# Altium integrated library Freescale DSP 24-Bit.IntLib: 35 symbols (part 1 of 3)
Pins are listed as number, name and electrical type; pins without a type are passive.

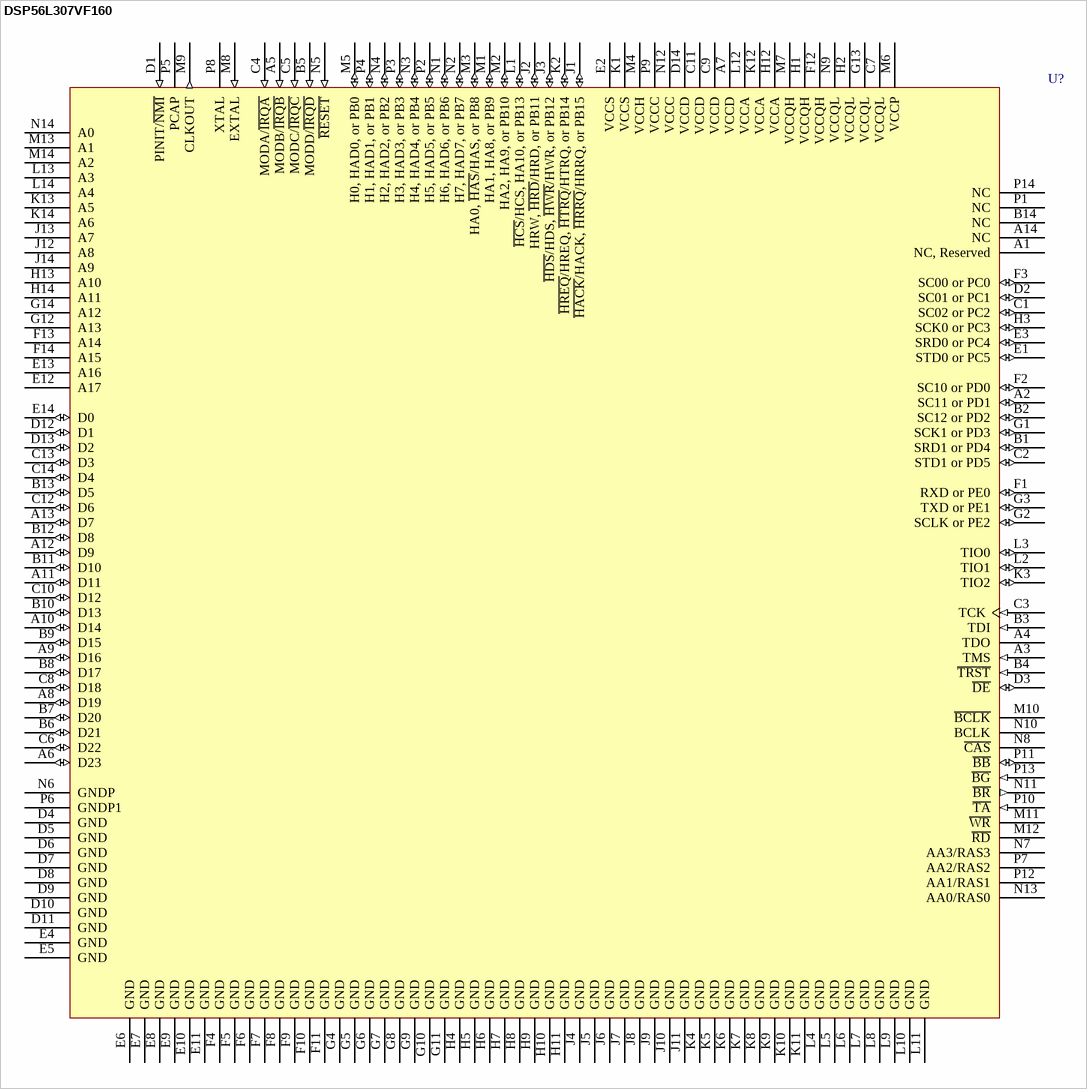
[diagram p0: symbol DSP56L307VF160]

## DSP56L307VF160
designator U?
DSP56300 Family High Performance 24-Bit Fixed Point DSP; Published: 21-Mar-2003; LatestRevisionDate: 13-Apr-2006; LatestRevisionNote: IPC-7351 Footprint Added.; DatasheetVersion: Rev. 2.0, Jul-2002; PackageVersion: rev7, Jan-2002; PackageReference: 1128C-01; Publisher: Altium Limited; PackageDescription: 196-Ball MAP-Ball Grid Array 1 mm Pitch; ComponentLink1Description: Manufacturer Link; ComponentLink1URL: http://www.freescale.com/; ComponentLink2Description: Datasheet; ComponentLink2URL: http://www.freescale.com/files/dsp/doc/data_sheet/DSP56L307.pdf
footprint 1128C-01 (BGA, 196-Leads, Body 15x15mm, Pitch 1mm)
3D model DSP56L307-1128C-01 (196-Ball MAP-Ball Grid Array 1 mm Pitch)
pins: A1 NC, Reserved, A2 SC11 or PD1 (io), A3 TMS (in), A4 TDO (hiz), A5 MODB/~{IRQB} (in), A6 D23 (io), A7 VCCD (power), A8 D19 (io), A9 D16 (io), A10 D14 (io), A11 D11 (io), A12 D9 (io), A13 D7 (io), A14 NC, B1 SRD1 or PD4 (io), B2 SC12 or PD2 (io), B3 TDI (in), B4 ~{TRST} (in), B5 MODD/~{IRQD} (in), B6 D21 (io), B7 D20 (io), B8 D17 (io), B9 D15 (io), B10 D13 (io), B11 D10 (io), B12 D8 (io), B13 D5 (io), B14 NC, C1 SC02 or PC2 (io), C2 STD1 or PD5 (io), C3 TCK (in), C4 MODA/~{IRQA} (in), C5 MODC/~{IRQC} (in), C6 D22 (io), C7 VCCQL (power), C8 D18 (io), C9 VCCD (power), C10 D12 (io), C11 VCCD (power), C12 D6 (io), C13 D3 (io), C14 D4 (io), D1 PINIT/~{NMI} (in), D2 SC01 or PC1 (io), D3 ~{DE} (io), D4 GND (power), D5 GND (power), D6 GND (power), D7 GND (power), D8 GND (power), D9 GND (power), D10 GND (power), D11 GND (power), D12 D1 (io), D13 D2 (io), D14 VCCD (power), E1 STD0 or PC5 (io), E2 VCCS (power), E3 SRD0 or PC4 (io), E4 GND (power), E5 GND (power), E6 GND (power), E7 GND (power), E8 GND (power), E9 GND (power), E10 GND (power), E11 GND (power), E12 A17 (hiz), E13 A16 (hiz), E14 D0 (io), F1 RXD or PE0 (io), F2 SC10 or PD0 (io), F3 SC00 or PC0 (io), F4 GND (power), F5 GND (power), F6 GND (power), F7 GND (power), F8 GND (power), F9 GND (power), F10 GND (power), F11 GND (power), F12 VCCQH (power), F13 A14 (hiz), F14 A15 (hiz), G1 SCK1 or PD3 (io), G2 SCLK or PE2 (io), G3 TXD or PE1 (io), G4 GND (power), G5 GND (power), G6 GND (power), G7 GND (power), G8 GND (power), G9 GND (power), G10 GND (power), G11 GND (power), G12 A13 (hiz), G13 VCCQL (power), G14 A12 (hiz), H1 VCCQH (power), H2 VCCQL (power), H3 SCK0 or PC3 (io), H4 GND (power), H5 GND (power), H6 GND (power), H7 GND (power), H8 GND (power), H9 GND (power), H10 GND (power), H11 GND (power), H12 VCCA (power), H13 A10 (hiz), H14 A11 (hiz), J1 ~{HACK}/HACK, ~{HRRQ}/HRRQ, or PB15 (io), J2 HRW, ~{HRD}/HRD, or PB11 (io), J3 ~{HDS}/HDS, ~{HWR}/HWR, or PB12 (io), J4 GND (power), J5 GND (power), J6 GND (power), J7 GND (power), J8 GND (power), J9 GND (power), J10 GND (power), J11 GND (power), J12 A8 (hiz), J13 A7 (hiz), J14 A9 (hiz), K1 VCCS (power), K2 ~{HREQ}/HREQ, ~{HTRQ}/HTRQ, or PB14 (io), K3 TIO2 (io), K4 GND (power), K5 GND (power), K6 GND (power), K7 GND (power), K8 GND (power), K9 GND (power), K10 GND (power), K11 GND (power), K12 VCCA (power), K13 A5 (hiz), K14 A6 (hiz), L1 ~{HCS}/HCS, HA10, or PB13 (io), L2 TIO1 (io), L3 TIO0 (io), L4 GND (power), L5 GND (power), L6 GND (power), L7 GND (power), L8 GND (power), L9 GND (power), L10 GND (power), L11 GND (power), L12 VCCA (power), L13 A3 (hiz), L14 A4 (hiz), M1 HA1, HA8, or PB9 (io), M2 HA2, HA9, or PB10 (io), M3 HA0, ~{HAS}/HAS, or PB8 (io), M4 VCCH (power), M5 H0, HAD0, or PB0 (io), M6 VCCP (power), M7 VCCQH (power), M8 EXTAL (in), M9 CLKOUT (out), M10 ~{BCLK} (hiz), M11 ~{WR} (hiz), M12 ~{RD} (hiz), M13 A1 (hiz), M14 A2 (hiz), N1 H6, HAD6, or PB6 (io), N2 H7, HAD7, or PB7 (io), N3 H4, HAD4, or PB4 (io), N4 H2, HAD2, or PB2 (io), N5 ~{RESET} (in), N6 GNDP (power), N7 AA3/RAS3 (hiz), N8 ~{CAS} (hiz), N9 VCCQL (power), N10 BCLK (hiz), N11 ~{BR} (out), N12 VCCC (power), N13 AA0/RAS0 (hiz), N14 A0 (hiz), P1 NC, P2 H5, HAD5, or PB5 (io), P3 H3, HAD3, or PB3 (io), P4 H1, HAD1, or PB1 (io), P5 PCAP, P6 GNDP1 (power), P7 AA2/RAS2 (hiz), P8 XTAL, P9 VCCC (power), P10 ~{TA} (in), P11 ~{BB} (io), P12 AA1/RAS1 (hiz), P13 ~{BG} (in), P14 NC

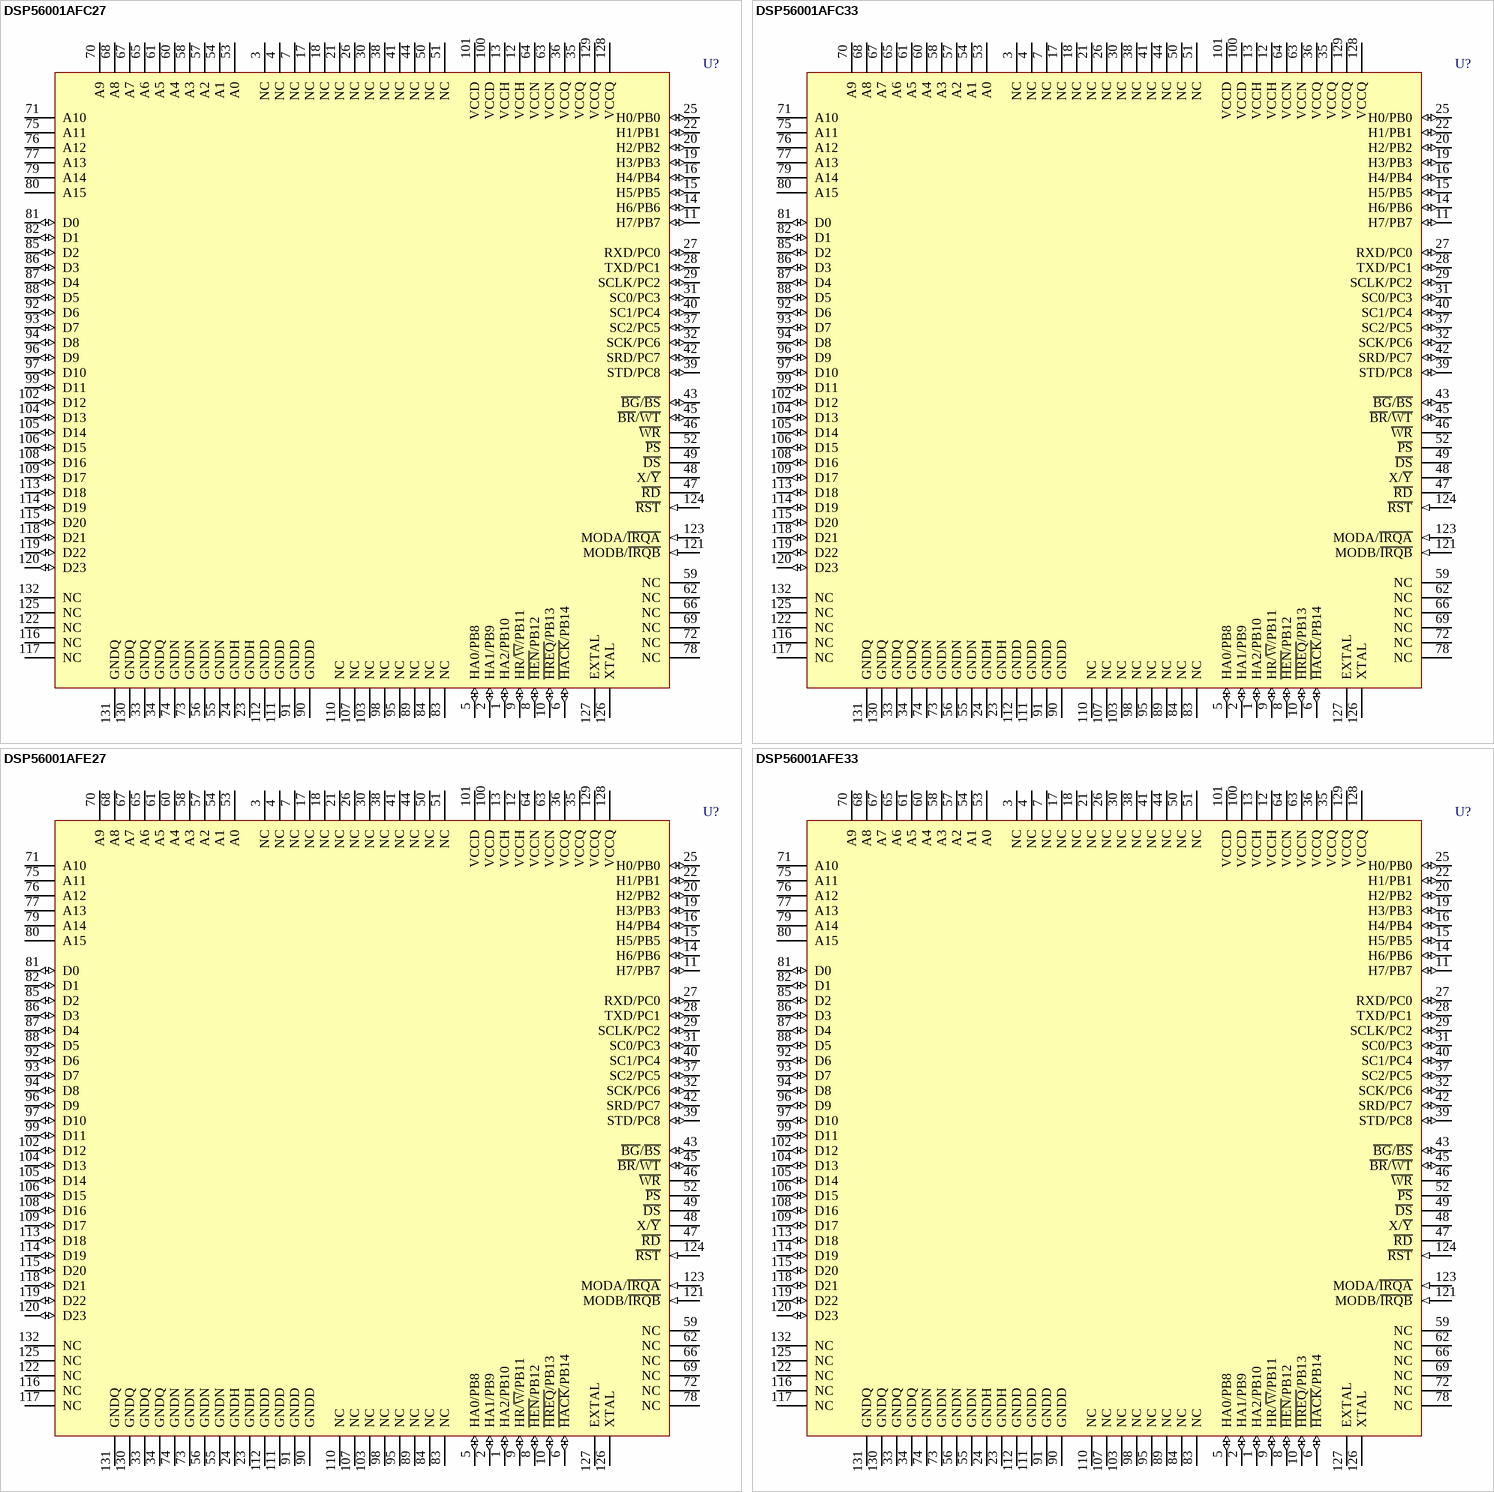
[diagram p1: symbols DSP56001AFC27 to DSP56001AFE33]

## DSP56001AFC27
designator U?
24-Bit General-Purpose Digital Signal Processor; Note: Do not connect to 'No Connect' Pins.; Published: 21-Mar-2003; LatestRevisionDate: 13-Apr-2006; LatestRevisionNote: IPC-7351 Footprint Added.; DatasheetVersion: Rev. 1, 1997; PackageReference: 831-01; Publisher: Altium Limited; PackageDescription: 132-Pin Ceramic Quad Flat Pack 0.635 mm Pitch; ComponentLink1Description: Manufacturer Link; ComponentLink1URL: http://www.freescale.com/
footprint 831-01_N (CQFP, 132-Leads, Body 22.4x22.4mm; Pitch 0.635mm, Gullwing Leadform, IPC Medium Density)
footprint 831-01_L (CQFP, 132-Leads, Body 22.4x22.4mm; Pitch 0.635mm, Gullwing Leadform, IPC High Density)
footprint 831-01_M (CQFP, 132-Leads, Body 22.4x22.4mm; Pitch 0.635mm, Gullwing Leadform, IPC Low Density)
3D model DSP56001A-831-01 (132-Pin Ceramic Quad Flat Pack 0.635 mm Pitch)
pins: 1 HA2/PB10 (io), 2 HA1/PB9 (io), 3 NC, 4 NC, 5 HA0/PB8 (io), 6 ~{HACK}/PB14 (io), 7 NC, 8 ~{HEN}/PB12 (io), 9 HR/~{W}/PB11 (io), 10 ~{HREQ}/PB13 (io), 11 H7/PB7 (io), 12 VCCH (power), 13 VCCH (power), 14 H6/PB6 (io), 15 H5/PB5 (io), 16 H4/PB4 (io), 17 NC, 18 NC, 19 H3/PB3 (io), 20 H2/PB2 (io), 21 NC, 22 H1/PB1 (io), 23 GNDH (power), 24 GNDH (power), 25 H0/PB0 (io), 26 NC, 27 RXD/PC0 (io), 28 TXD/PC1 (io), 29 SCLK/PC2 (io), 30 NC, 31 SC0/PC3 (io), 32 SCK/PC6 (io), 33 GNDQ (power), 34 GNDQ (power), 35 VCCQ (power), 36 VCCQ (power), 37 SC2/PC5 (io), 38 NC, 39 STD/PC8 (io), 40 SC1/PC4 (io), 41 NC, 42 SRD/PC7 (io), 43 ~{BG}/~{BS} (io), 44 NC, 45 ~{BR}/~{WT} (io), 46 ~{WR} (hiz), 47 ~{RD} (hiz), 48 X/~{Y} (hiz), 49 ~{DS} (hiz), 50 NC, 51 NC, 52 ~{PS} (hiz), 53 A0 (hiz), 54 A1 (hiz), 55 GNDN (power), 56 GNDN (power), 57 A2 (hiz), 58 A3 (hiz), 59 NC, 60 A4 (hiz), 61 A5 (hiz), 62 NC, 63 VCCN (power), 64 VCCN (power), 65 A6 (hiz), 66 NC, 67 A7 (hiz), 68 A8 (hiz), 69 NC, 70 A9 (hiz), 71 A10 (hiz), 72 NC, 73 GNDN (power), 74 GNDN (power), 75 A11 (hiz), 76 A12 (hiz), 77 A13 (hiz), 78 NC, 79 A14 (hiz), 80 A15 (hiz), 81 D0 (io), 82 D1 (io), 83 NC, 84 NC, 85 D2 (io), 86 D3 (io), 87 D4 (io), 88 D5 (io), 89 NC, 90 GNDD (power), 91 GNDD (power), 92 D6 (io), 93 D7 (io), 94 D8 (io), 95 NC, 96 D9 (io), 97 D10 (io), 98 NC, 99 D11 (io), 100 VCCD (power), 101 VCCD (power), 102 D12 (io), 103 NC, 104 D13 (io), 105 D14 (io), 106 D15 (io), 107 NC, 108 D16 (io), 109 D17 (io), 110 NC, 111 GNDD (power), 112 GNDD (power), 113 D18 (io), 114 D19 (io), 115 D20 (io), 116 NC, 117 NC, 118 D21 (io), 119 D22 (io), 120 D23 (io), 121 MODB/~{IRQB} (in), 122 NC, 123 MODA/~{IRQA} (in), 124 ~{RST} (in), 125 NC, 126 XTAL, 127 EXTAL, 128 VCCQ (power), 129 VCCQ (power), 130 GNDQ (power), 131 GNDQ (power), 132 NC

## DSP56001AFC33
designator U?
24-Bit General-Purpose Digital Signal Processor; Note: Do not connect to 'No Connect' Pins.; Published: 21-Mar-2003; LatestRevisionDate: 13-Apr-2006; LatestRevisionNote: IPC-7351 Footprint Added.; DatasheetVersion: Rev. 1, 1997; PackageReference: 831-01; Publisher: Altium Limited; PackageDescription: 132-Pin Ceramic Quad Flat Pack 0.635 mm Pitch; ComponentLink1Description: Manufacturer Link; ComponentLink1URL: http://www.freescale.com/
footprint 831-01_N (CQFP, 132-Leads, Body 22.4x22.4mm; Pitch 0.635mm, Gullwing Leadform, IPC Medium Density)
footprint 831-01_L (CQFP, 132-Leads, Body 22.4x22.4mm; Pitch 0.635mm, Gullwing Leadform, IPC High Density)
footprint 831-01_M (CQFP, 132-Leads, Body 22.4x22.4mm; Pitch 0.635mm, Gullwing Leadform, IPC Low Density)
3D model DSP56001A-831-01 (132-Pin Ceramic Quad Flat Pack 0.635 mm Pitch)
pins: 1 HA2/PB10 (io), 2 HA1/PB9 (io), 3 NC, 4 NC, 5 HA0/PB8 (io), 6 ~{HACK}/PB14 (io), 7 NC, 8 ~{HEN}/PB12 (io), 9 HR/~{W}/PB11 (io), 10 ~{HREQ}/PB13 (io), 11 H7/PB7 (io), 12 VCCH (power), 13 VCCH (power), 14 H6/PB6 (io), 15 H5/PB5 (io), 16 H4/PB4 (io), 17 NC, 18 NC, 19 H3/PB3 (io), 20 H2/PB2 (io), 21 NC, 22 H1/PB1 (io), 23 GNDH (power), 24 GNDH (power), 25 H0/PB0 (io), 26 NC, 27 RXD/PC0 (io), 28 TXD/PC1 (io), 29 SCLK/PC2 (io), 30 NC, 31 SC0/PC3 (io), 32 SCK/PC6 (io), 33 GNDQ (power), 34 GNDQ (power), 35 VCCQ (power), 36 VCCQ (power), 37 SC2/PC5 (io), 38 NC, 39 STD/PC8 (io), 40 SC1/PC4 (io), 41 NC, 42 SRD/PC7 (io), 43 ~{BG}/~{BS} (io), 44 NC, 45 ~{BR}/~{WT} (io), 46 ~{WR} (hiz), 47 ~{RD} (hiz), 48 X/~{Y} (hiz), 49 ~{DS} (hiz), 50 NC, 51 NC, 52 ~{PS} (hiz), 53 A0 (hiz), 54 A1 (hiz), 55 GNDN (power), 56 GNDN (power), 57 A2 (hiz), 58 A3 (hiz), 59 NC, 60 A4 (hiz), 61 A5 (hiz), 62 NC, 63 VCCN (power), 64 VCCN (power), 65 A6 (hiz), 66 NC, 67 A7 (hiz), 68 A8 (hiz), 69 NC, 70 A9 (hiz), 71 A10 (hiz), 72 NC, 73 GNDN (power), 74 GNDN (power), 75 A11 (hiz), 76 A12 (hiz), 77 A13 (hiz), 78 NC, 79 A14 (hiz), 80 A15 (hiz), 81 D0 (io), 82 D1 (io), 83 NC, 84 NC, 85 D2 (io), 86 D3 (io), 87 D4 (io), 88 D5 (io), 89 NC, 90 GNDD (power), 91 GNDD (power), 92 D6 (io), 93 D7 (io), 94 D8 (io), 95 NC, 96 D9 (io), 97 D10 (io), 98 NC, 99 D11 (io), 100 VCCD (power), 101 VCCD (power), 102 D12 (io), 103 NC, 104 D13 (io), 105 D14 (io), 106 D15 (io), 107 NC, 108 D16 (io), 109 D17 (io), 110 NC, 111 GNDD (power), 112 GNDD (power), 113 D18 (io), 114 D19 (io), 115 D20 (io), 116 NC, 117 NC, 118 D21 (io), 119 D22 (io), 120 D23 (io), 121 MODB/~{IRQB} (in), 122 NC, 123 MODA/~{IRQA} (in), 124 ~{RST} (in), 125 NC, 126 XTAL, 127 EXTAL, 128 VCCQ (power), 129 VCCQ (power), 130 GNDQ (power), 131 GNDQ (power), 132 NC

## DSP56001AFE27
designator U?
24-Bit Digital Signal Processor; Note: Do not connect to 'No Connect' Pins.; Published: 21-Mar-2003; LatestRevisionDate: 13-Apr-2006; LatestRevisionNote: IPC-7351 Footprint Added.; DatasheetVersion: Rev. 1, 1997; PackageReference: 831-01; Publisher: Altium Limited; PackageDescription: 132-Pin Ceramic Quad Flat Pack 0.635 mm Pitch; ComponentLink1Description: Manufacturer Link; ComponentLink1URL: http://www.freescale.com/
footprint 831-01_N (CQFP, 132-Leads, Body 22.4x22.4mm; Pitch 0.635mm, Gullwing Leadform, IPC Medium Density)
footprint 831-01_L (CQFP, 132-Leads, Body 22.4x22.4mm; Pitch 0.635mm, Gullwing Leadform, IPC High Density)
footprint 831-01_M (CQFP, 132-Leads, Body 22.4x22.4mm; Pitch 0.635mm, Gullwing Leadform, IPC Low Density)
3D model DSP56001A-831-01 (132-Pin Ceramic Quad Flat Pack 0.635 mm Pitch)
pins: 1 HA2/PB10 (io), 2 HA1/PB9 (io), 3 NC, 4 NC, 5 HA0/PB8 (io), 6 ~{HACK}/PB14 (io), 7 NC, 8 ~{HEN}/PB12 (io), 9 HR/~{W}/PB11 (io), 10 ~{HREQ}/PB13 (io), 11 H7/PB7 (io), 12 VCCH (power), 13 VCCH (power), 14 H6/PB6 (io), 15 H5/PB5 (io), 16 H4/PB4 (io), 17 NC, 18 NC, 19 H3/PB3 (io), 20 H2/PB2 (io), 21 NC, 22 H1/PB1 (io), 23 GNDH (power), 24 GNDH (power), 25 H0/PB0 (io), 26 NC, 27 RXD/PC0 (io), 28 TXD/PC1 (io), 29 SCLK/PC2 (io), 30 NC, 31 SC0/PC3 (io), 32 SCK/PC6 (io), 33 GNDQ (power), 34 GNDQ (power), 35 VCCQ (power), 36 VCCQ (power), 37 SC2/PC5 (io), 38 NC, 39 STD/PC8 (io), 40 SC1/PC4 (io), 41 NC, 42 SRD/PC7 (io), 43 ~{BG}/~{BS} (io), 44 NC, 45 ~{BR}/~{WT} (io), 46 ~{WR} (hiz), 47 ~{RD} (hiz), 48 X/~{Y} (hiz), 49 ~{DS} (hiz), 50 NC, 51 NC, 52 ~{PS} (hiz), 53 A0 (hiz), 54 A1 (hiz), 55 GNDN (power), 56 GNDN (power), 57 A2 (hiz), 58 A3 (hiz), 59 NC, 60 A4 (hiz), 61 A5 (hiz), 62 NC, 63 VCCN (power), 64 VCCN (power), 65 A6 (hiz), 66 NC, 67 A7 (hiz), 68 A8 (hiz), 69 NC, 70 A9 (hiz), 71 A10 (hiz), 72 NC, 73 GNDN (power), 74 GNDN (power), 75 A11 (hiz), 76 A12 (hiz), 77 A13 (hiz), 78 NC, 79 A14 (hiz), 80 A15 (hiz), 81 D0 (io), 82 D1 (io), 83 NC, 84 NC, 85 D2 (io), 86 D3 (io), 87 D4 (io), 88 D5 (io), 89 NC, 90 GNDD (power), 91 GNDD (power), 92 D6 (io), 93 D7 (io), 94 D8 (io), 95 NC, 96 D9 (io), 97 D10 (io), 98 NC, 99 D11 (io), 100 VCCD (power), 101 VCCD (power), 102 D12 (io), 103 NC, 104 D13 (io), 105 D14 (io), 106 D15 (io), 107 NC, 108 D16 (io), 109 D17 (io), 110 NC, 111 GNDD (power), 112 GNDD (power), 113 D18 (io), 114 D19 (io), 115 D20 (io), 116 NC, 117 NC, 118 D21 (io), 119 D22 (io), 120 D23 (io), 121 MODB/~{IRQB} (in), 122 NC, 123 MODA/~{IRQA} (in), 124 ~{RST} (in), 125 NC, 126 XTAL, 127 EXTAL, 128 VCCQ (power), 129 VCCQ (power), 130 GNDQ (power), 131 GNDQ (power), 132 NC

## DSP56001AFE33
designator U?
24-Bit Digital Signal Processor; Note: Do not connect to 'No Connect' Pins.; Published: 21-Mar-2003; LatestRevisionDate: 13-Apr-2006; LatestRevisionNote: IPC-7351 Footprint Added.; DatasheetVersion: Rev. 1, 1997; PackageReference: 831-01; Publisher: Altium Limited; PackageDescription: 132-Pin Ceramic Quad Flat Pack 0.635 mm Pitch; ComponentLink1Description: Manufacturer Link; ComponentLink1URL: http://www.freescale.com/
footprint 831-01_N (CQFP, 132-Leads, Body 22.4x22.4mm; Pitch 0.635mm, Gullwing Leadform, IPC Medium Density)
footprint 831-01_L (CQFP, 132-Leads, Body 22.4x22.4mm; Pitch 0.635mm, Gullwing Leadform, IPC High Density)
footprint 831-01_M (CQFP, 132-Leads, Body 22.4x22.4mm; Pitch 0.635mm, Gullwing Leadform, IPC Low Density)
3D model DSP56001A-831-01 (132-Pin Ceramic Quad Flat Pack 0.635 mm Pitch)
pins: 1 HA2/PB10 (io), 2 HA1/PB9 (io), 3 NC, 4 NC, 5 HA0/PB8 (io), 6 ~{HACK}/PB14 (io), 7 NC, 8 ~{HEN}/PB12 (io), 9 HR/~{W}/PB11 (io), 10 ~{HREQ}/PB13 (io), 11 H7/PB7 (io), 12 VCCH (power), 13 VCCH (power), 14 H6/PB6 (io), 15 H5/PB5 (io), 16 H4/PB4 (io), 17 NC, 18 NC, 19 H3/PB3 (io), 20 H2/PB2 (io), 21 NC, 22 H1/PB1 (io), 23 GNDH (power), 24 GNDH (power), 25 H0/PB0 (io), 26 NC, 27 RXD/PC0 (io), 28 TXD/PC1 (io), 29 SCLK/PC2 (io), 30 NC, 31 SC0/PC3 (io), 32 SCK/PC6 (io), 33 GNDQ (power), 34 GNDQ (power), 35 VCCQ (power), 36 VCCQ (power), 37 SC2/PC5 (io), 38 NC, 39 STD/PC8 (io), 40 SC1/PC4 (io), 41 NC, 42 SRD/PC7 (io), 43 ~{BG}/~{BS} (io), 44 NC, 45 ~{BR}/~{WT} (io), 46 ~{WR} (hiz), 47 ~{RD} (hiz), 48 X/~{Y} (hiz), 49 ~{DS} (hiz), 50 NC, 51 NC, 52 ~{PS} (hiz), 53 A0 (hiz), 54 A1 (hiz), 55 GNDN (power), 56 GNDN (power), 57 A2 (hiz), 58 A3 (hiz), 59 NC, 60 A4 (hiz), 61 A5 (hiz), 62 NC, 63 VCCN (power), 64 VCCN (power), 65 A6 (hiz), 66 NC, 67 A7 (hiz), 68 A8 (hiz), 69 NC, 70 A9 (hiz), 71 A10 (hiz), 72 NC, 73 GNDN (power), 74 GNDN (power), 75 A11 (hiz), 76 A12 (hiz), 77 A13 (hiz), 78 NC, 79 A14 (hiz), 80 A15 (hiz), 81 D0 (io), 82 D1 (io), 83 NC, 84 NC, 85 D2 (io), 86 D3 (io), 87 D4 (io), 88 D5 (io), 89 NC, 90 GNDD (power), 91 GNDD (power), 92 D6 (io), 93 D7 (io), 94 D8 (io), 95 NC, 96 D9 (io), 97 D10 (io), 98 NC, 99 D11 (io), 100 VCCD (power), 101 VCCD (power), 102 D12 (io), 103 NC, 104 D13 (io), 105 D14 (io), 106 D15 (io), 107 NC, 108 D16 (io), 109 D17 (io), 110 NC, 111 GNDD (power), 112 GNDD (power), 113 D18 (io), 114 D19 (io), 115 D20 (io), 116 NC, 117 NC, 118 D21 (io), 119 D22 (io), 120 D23 (io), 121 MODB/~{IRQB} (in), 122 NC, 123 MODA/~{IRQA} (in), 124 ~{RST} (in), 125 NC, 126 XTAL, 127 EXTAL, 128 VCCQ (power), 129 VCCQ (power), 130 GNDQ (power), 131 GNDQ (power), 132 NC

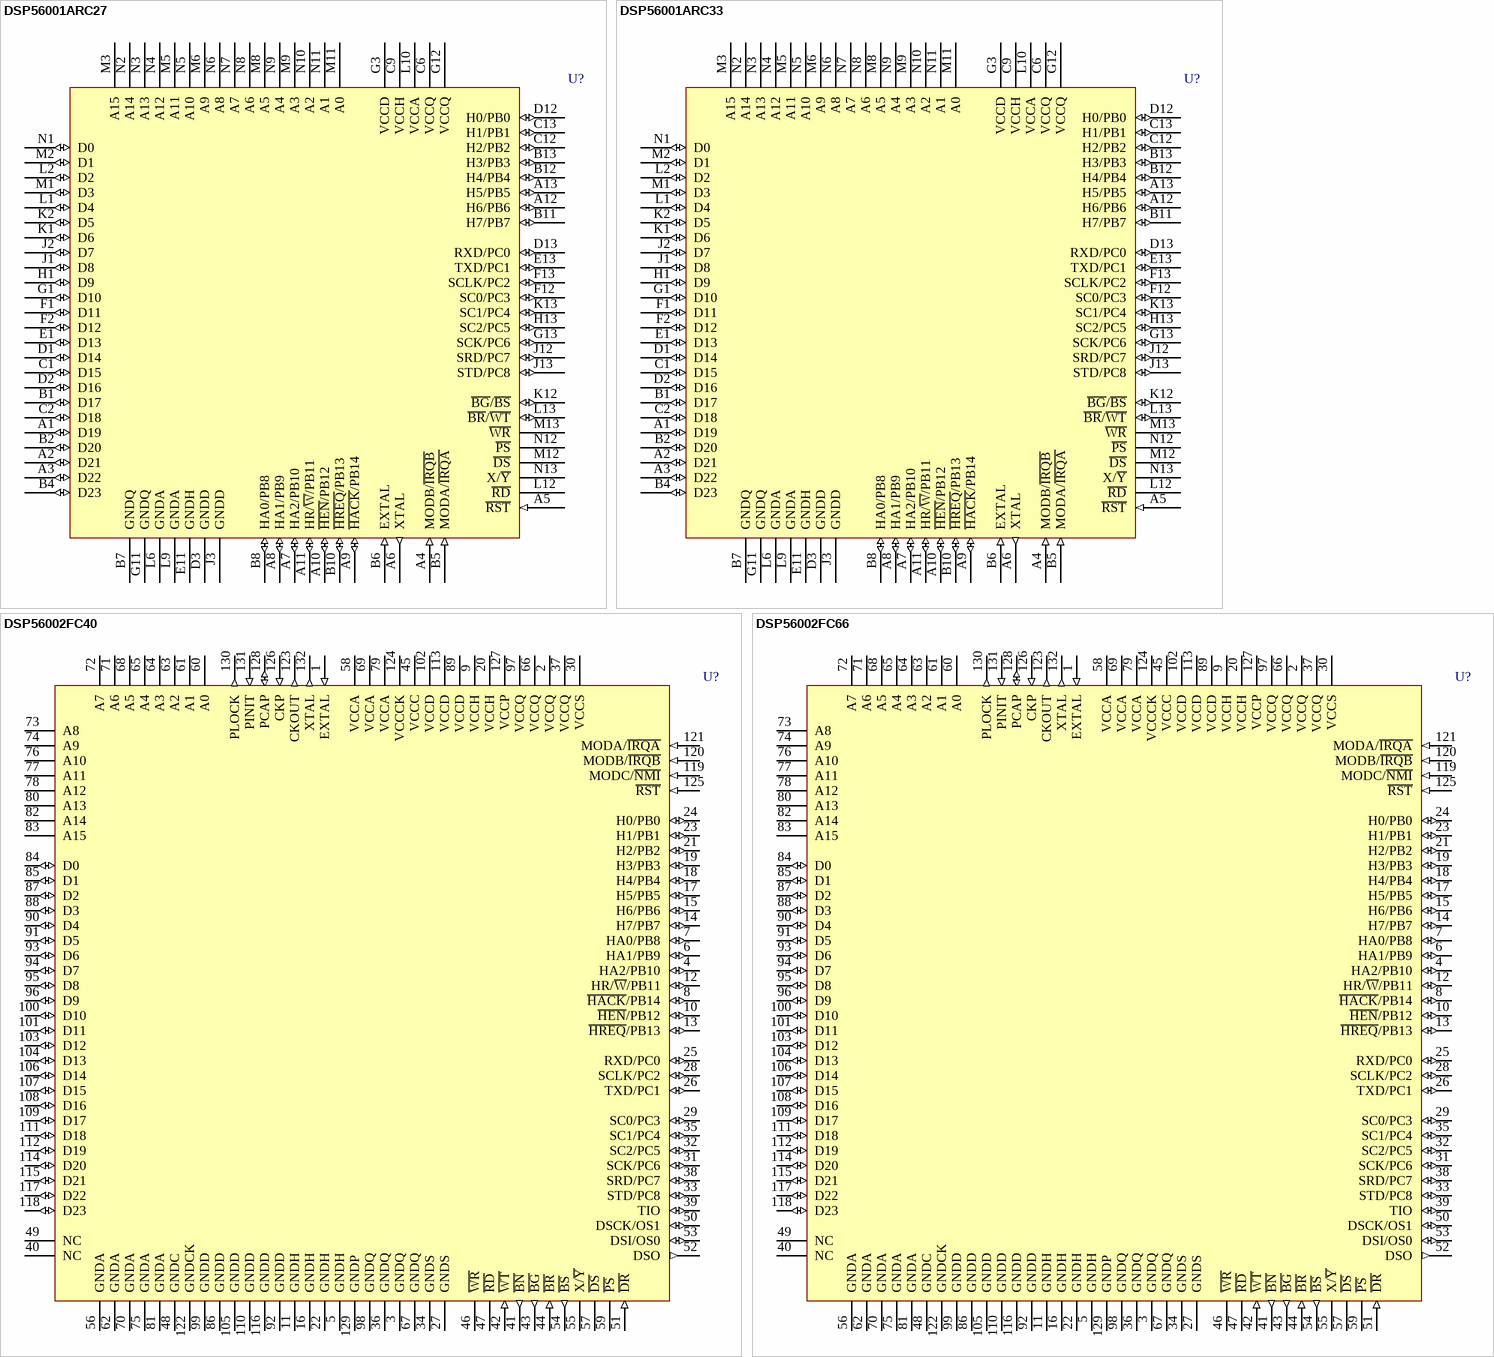
[diagram p2: symbols DSP56001ARC27 to DSP56002FC66]

## DSP56001ARC27
designator U?
24-Bit Digital Signal Processor; Note: Do not connect to 'No Connect' Pins.; Note: Pin 'L8' renamed 'L10' to conform to package pin-out; Published: 21-Mar-2003; LatestRevisionDate: 06-Jun-2005; LatestRevisionNote: Stylized 3D Model Added.; DatasheetVersion: Rev. 1, 1997; PackageVersion: rev1, 1997; PackageReference: PGA88; Publisher: Altium Limited; PackageDescription: 88-Pin Pin Grid Array 2.54 mm Pitch; ComponentLink1Description: Manufacturer Link; ComponentLink1URL: http://www.freescale.com/
footprint PGA88 (PGA, 88-Leads, Body 34.5x34.5mm, Pitch 2.54mm)
3D model DSP56001A-PGA88 (88-Pin Pin Grid Array 2.54 mm Pitch)
pins: A1 D19 (io), A2 D21 (io), A3 D22 (io), A4 MODB/~{IRQB} (in), A5 ~{RST} (in), A6 XTAL (out), A7 HA2/PB10 (io), A8 HA1/PB9 (io), A9 ~{HACK}/PB14 (io), A10 ~{HEN}/PB12 (io), A11 HR/~{W}/PB11 (io), A12 H6/PB6 (io), A13 H5/PB5 (io), B1 D17 (io), B2 D20 (io), B4 D23 (io), B5 MODA/~{IRQA} (in), B6 EXTAL (in), B7 GNDQ (power), B8 HA0/PB8 (io), B10 ~{HREQ}/PB13 (io), B11 H7/PB7 (io), B12 H4/PB4 (io), B13 H3/PB3 (io), C1 D15 (io), C2 D18 (io), C6 VCCQ (power), C9 VCCH (power), C12 H2/PB2 (io), C13 H1/PB1 (io), D1 D14 (io), D2 D16 (io), D3 GNDD (power), D12 H0/PB0 (io), D13 RXD/PC0 (io), E1 D13 (io), E11 GNDH (power), E13 TXD/PC1 (io), F1 D11 (io), F2 D12 (io), F12 SC0/PC3 (io), F13 SCLK/PC2 (io), G1 D10 (io), G3 VCCD (power), G11 GNDQ (power), G12 VCCQ (power), G13 SCK/PC6 (io), H1 D9 (io), H13 SC2/PC5 (io), J1 D8 (io), J2 D7 (io), J3 GNDD (power), J12 SRD/PC7 (io), J13 STD/PC8 (io), K1 D6 (io), K2 D5 (io), K12 ~{BG}/~{BS} (io), K13 SC1/PC4 (io), L1 D4 (io), L2 D2 (io), L6 GNDA (power), L9 GNDA (power), L10 VCCA (power), L12 ~{RD} (hiz), L13 ~{BR}/~{WT} (io), M1 D3 (io), M2 D1 (io), M3 A15 (hiz), M5 A11 (hiz), M6 A9 (hiz), M8 A5 (hiz), M9 A3 (hiz), M11 A0 (hiz), M12 ~{DS} (hiz), M13 ~{WR} (hiz), N1 D0 (io), N2 A14 (hiz), N3 A13 (hiz), N4 A12 (hiz), N5 A10 (hiz), N6 A8 (hiz), N7 A7 (hiz), N8 A6 (hiz), N9 A4 (hiz), N10 A2 (hiz), N11 A1 (hiz), N12 ~{PS} (hiz), N13 X/~{Y} (hiz)

## DSP56001ARC33
designator U?
24-Bit Digital Signal Processor; Note: Do not connect to 'No Connect' Pins.; Note: Pin 'L8' renamed 'L10' to conform to package pin-out; Published: 21-Mar-2003; LatestRevisionDate: 06-Jun-2005; LatestRevisionNote: Stylized 3D Model Added.; DatasheetVersion: Rev. 1, 1997; PackageVersion: rev1, 1997; PackageReference: PGA88; Publisher: Altium Limited; PackageDescription: 88-Pin Pin Grid Array 2.54 mm Pitch; ComponentLink1Description: Manufacturer Link; ComponentLink1URL: http://www.freescale.com/
footprint PGA88 (PGA, 88-Leads, Body 34.5x34.5mm, Pitch 2.54mm)
3D model DSP56001A-PGA88 (88-Pin Pin Grid Array 2.54 mm Pitch)
pins: A1 D19 (io), A2 D21 (io), A3 D22 (io), A4 MODB/~{IRQB} (in), A5 ~{RST} (in), A6 XTAL (out), A7 HA2/PB10 (io), A8 HA1/PB9 (io), A9 ~{HACK}/PB14 (io), A10 ~{HEN}/PB12 (io), A11 HR/~{W}/PB11 (io), A12 H6/PB6 (io), A13 H5/PB5 (io), B1 D17 (io), B2 D20 (io), B4 D23 (io), B5 MODA/~{IRQA} (in), B6 EXTAL (in), B7 GNDQ (power), B8 HA0/PB8 (io), B10 ~{HREQ}/PB13 (io), B11 H7/PB7 (io), B12 H4/PB4 (io), B13 H3/PB3 (io), C1 D15 (io), C2 D18 (io), C6 VCCQ (power), C9 VCCH (power), C12 H2/PB2 (io), C13 H1/PB1 (io), D1 D14 (io), D2 D16 (io), D3 GNDD (power), D12 H0/PB0 (io), D13 RXD/PC0 (io), E1 D13 (io), E11 GNDH (power), E13 TXD/PC1 (io), F1 D11 (io), F2 D12 (io), F12 SC0/PC3 (io), F13 SCLK/PC2 (io), G1 D10 (io), G3 VCCD (power), G11 GNDQ (power), G12 VCCQ (power), G13 SCK/PC6 (io), H1 D9 (io), H13 SC2/PC5 (io), J1 D8 (io), J2 D7 (io), J3 GNDD (power), J12 SRD/PC7 (io), J13 STD/PC8 (io), K1 D6 (io), K2 D5 (io), K12 ~{BG}/~{BS} (io), K13 SC1/PC4 (io), L1 D4 (io), L2 D2 (io), L6 GNDA (power), L9 GNDA (power), L10 VCCA (power), L12 ~{RD} (hiz), L13 ~{BR}/~{WT} (io), M1 D3 (io), M2 D1 (io), M3 A15 (hiz), M5 A11 (hiz), M6 A9 (hiz), M8 A5 (hiz), M9 A3 (hiz), M11 A0 (hiz), M12 ~{DS} (hiz), M13 ~{WR} (hiz), N1 D0 (io), N2 A14 (hiz), N3 A13 (hiz), N4 A12 (hiz), N5 A10 (hiz), N6 A8 (hiz), N7 A7 (hiz), N8 A6 (hiz), N9 A4 (hiz), N10 A2 (hiz), N11 A1 (hiz), N12 ~{PS} (hiz), N13 X/~{Y} (hiz)

## DSP56002FC40
designator U?
24-Bit Digital Signal Processor; Note: Do not connect to 'No Connect' Pins.; Published: 21-Mar-2003; DatasheetVersion: Rev. 3, 1996; PackageVersion: 1997; PackageReference: 831A-01; Publisher: Altium Limited; PackageDescription: PQFP; 132 Leads; Body 24 x 24 mm; Pitch 0.635 mm; ComponentLink1Description: Manufacturer Link; ComponentLink1URL: http://www.freescale.com/
footprint 831A-01 (PQFP; 132 Leads; Body 24 x 24 mm; Pitch 0.635 mm)
pins: 1 EXTAL (in), 2 VCCQ (power), 3 GNDQ (power), 4 HA2/PB10 (io), 5 GNDH (power), 6 HA1/PB9 (io), 7 HA0/PB8 (io), 8 ~{HACK}/PB14 (io), 9 VCCH (power), 10 ~{HEN}/PB12 (io), 11 GNDH (power), 12 HR/~{W}/PB11 (io), 13 ~{HREQ}/PB13 (io), 14 H7/PB7 (io), 15 H6/PB6 (io), 16 GNDH (power), 17 H5/PB5 (io), 18 H4/PB4 (io), 19 H3/PB3 (io), 20 VCCH (power), 21 H2/PB2 (io), 22 GNDH (power), 23 H1/PB1 (io), 24 H0/PB0 (io), 25 RXD/PC0 (io), 26 TXD/PC1 (io), 27 GNDS (power), 28 SCLK/PC2 (io), 29 SC0/PC3 (io), 30 VCCS (power), 31 SCK/PC6 (io), 32 SC2/PC5 (io), 33 STD/PC8 (io), 34 GNDS (power), 35 SC1/PC4 (io), 36 GNDQ (power), 37 VCCQ (power), 38 SRD/PC7 (io), 39 TIO (io), 40 NC, 41 ~{BN} (out), 42 ~{WT} (in), 43 ~{BG} (out), 44 ~{BR} (in), 45 VCCC (power), 46 ~{WR} (hiz), 47 ~{RD} (hiz), 48 GNDC (power), 49 NC, 50 DSCK/OS1 (io), 51 ~{DR} (in), 52 DSO (out), 53 DSI/OS0 (io), 54 ~{BS} (out), 55 X/~{Y} (hiz), 56 GNDA (power), 57 ~{DS} (hiz), 58 VCCA (power), 59 ~{PS} (hiz), 60 A0 (hiz), 61 A1 (hiz), 62 GNDA (power), 63 A2 (hiz), 64 A3 (hiz), 65 A4 (hiz), 66 VCCQ (power), 67 GNDQ (power), 68 A5 (hiz), 69 VCCA (power), 70 GNDA (power), 71 A6 (hiz), 72 A7 (hiz), 73 A8 (hiz), 74 A9 (hiz), 75 GNDA (power), 76 A10 (hiz), 77 A11 (hiz), 78 A12 (hiz), 79 VCCA (power), 80 A13 (hiz), 81 GNDA (power), 82 A14 (hiz), 83 A15 (hiz), 84 D0 (io), 85 D1 (io), 86 GNDD (power), 87 D2 (io), 88 D3 (io), 89 VCCD (power), 90 D4 (io), 91 D5 (io), 92 GNDD (power), 93 D6 (io), 94 D7 (io), 95 D8 (io), 96 D9 (io), 97 VCCQ (power), 98 GNDQ (power), 99 GNDD (power), 100 D10 (io), 101 D11 (io), 102 VCCD (power), 103 D12 (io), 104 D13 (io), 105 GNDD (power), 106 D14 (io), 107 D15 (io), 108 D16 (io), 109 D17 (io), 110 GNDD (power), 111 D18 (io), 112 D19 (io), 113 VCCD (power), 114 D20 (io), 115 D21 (io), 116 GNDD (power), 117 D22 (io), 118 D23 (io), 119 MODC/~{NMI} (in), 120 MODB/~{IRQB} (in), 121 MODA/~{IRQA} (in), 122 GNDCK (power), 123 CKOUT (out), 124 VCCCK (power), 125 ~{RST} (in), 126 CKP (in), 127 VCCP (power), 128 PCAP (io), 129 GNDP (power), 130 PLOCK (out), 131 PINIT (in), 132 XTAL (out)

## DSP56002FC66
designator U?
24-Bit Digital Signal Processor; Note: Do not connect to 'No Connect' Pins.; Published: 21-Mar-2003; DatasheetVersion: Rev. 3, 1996; PackageVersion: 1997; PackageReference: 831A-01; Publisher: Altium Limited; PackageDescription: PQFP; 132 Leads; Body 24 x 24 mm; Pitch 0.635 mm; ComponentLink1Description: Manufacturer Link; ComponentLink1URL: http://www.freescale.com/
footprint 831A-01 (PQFP; 132 Leads; Body 24 x 24 mm; Pitch 0.635 mm)
pins: 1 EXTAL (in), 2 VCCQ (power), 3 GNDQ (power), 4 HA2/PB10 (io), 5 GNDH (power), 6 HA1/PB9 (io), 7 HA0/PB8 (io), 8 ~{HACK}/PB14 (io), 9 VCCH (power), 10 ~{HEN}/PB12 (io), 11 GNDH (power), 12 HR/~{W}/PB11 (io), 13 ~{HREQ}/PB13 (io), 14 H7/PB7 (io), 15 H6/PB6 (io), 16 GNDH (power), 17 H5/PB5 (io), 18 H4/PB4 (io), 19 H3/PB3 (io), 20 VCCH (power), 21 H2/PB2 (io), 22 GNDH (power), 23 H1/PB1 (io), 24 H0/PB0 (io), 25 RXD/PC0 (io), 26 TXD/PC1 (io), 27 GNDS (power), 28 SCLK/PC2 (io), 29 SC0/PC3 (io), 30 VCCS (power), 31 SCK/PC6 (io), 32 SC2/PC5 (io), 33 STD/PC8 (io), 34 GNDS (power), 35 SC1/PC4 (io), 36 GNDQ (power), 37 VCCQ (power), 38 SRD/PC7 (io), 39 TIO (io), 40 NC, 41 ~{BN} (out), 42 ~{WT} (in), 43 ~{BG} (out), 44 ~{BR} (in), 45 VCCC (power), 46 ~{WR} (hiz), 47 ~{RD} (hiz), 48 GNDC (power), 49 NC, 50 DSCK/OS1 (io), 51 ~{DR} (in), 52 DSO (out), 53 DSI/OS0 (io), 54 ~{BS} (out), 55 X/~{Y} (hiz), 56 GNDA (power), 57 ~{DS} (hiz), 58 VCCA (power), 59 ~{PS} (hiz), 60 A0 (hiz), 61 A1 (hiz), 62 GNDA (power), 63 A2 (hiz), 64 A3 (hiz), 65 A4 (hiz), 66 VCCQ (power), 67 GNDQ (power), 68 A5 (hiz), 69 VCCA (power), 70 GNDA (power), 71 A6 (hiz), 72 A7 (hiz), 73 A8 (hiz), 74 A9 (hiz), 75 GNDA (power), 76 A10 (hiz), 77 A11 (hiz), 78 A12 (hiz), 79 VCCA (power), 80 A13 (hiz), 81 GNDA (power), 82 A14 (hiz), 83 A15 (hiz), 84 D0 (io), 85 D1 (io), 86 GNDD (power), 87 D2 (io), 88 D3 (io), 89 VCCD (power), 90 D4 (io), 91 D5 (io), 92 GNDD (power), 93 D6 (io), 94 D7 (io), 95 D8 (io), 96 D9 (io), 97 VCCQ (power), 98 GNDQ (power), 99 GNDD (power), 100 D10 (io), 101 D11 (io), 102 VCCD (power), 103 D12 (io), 104 D13 (io), 105 GNDD (power), 106 D14 (io), 107 D15 (io), 108 D16 (io), 109 D17 (io), 110 GNDD (power), 111 D18 (io), 112 D19 (io), 113 VCCD (power), 114 D20 (io), 115 D21 (io), 116 GNDD (power), 117 D22 (io), 118 D23 (io), 119 MODC/~{NMI} (in), 120 MODB/~{IRQB} (in), 121 MODA/~{IRQA} (in), 122 GNDCK (power), 123 CKOUT (out), 124 VCCCK (power), 125 ~{RST} (in), 126 CKP (in), 127 VCCP (power), 128 PCAP (io), 129 GNDP (power), 130 PLOCK (out), 131 PINIT (in), 132 XTAL (out)

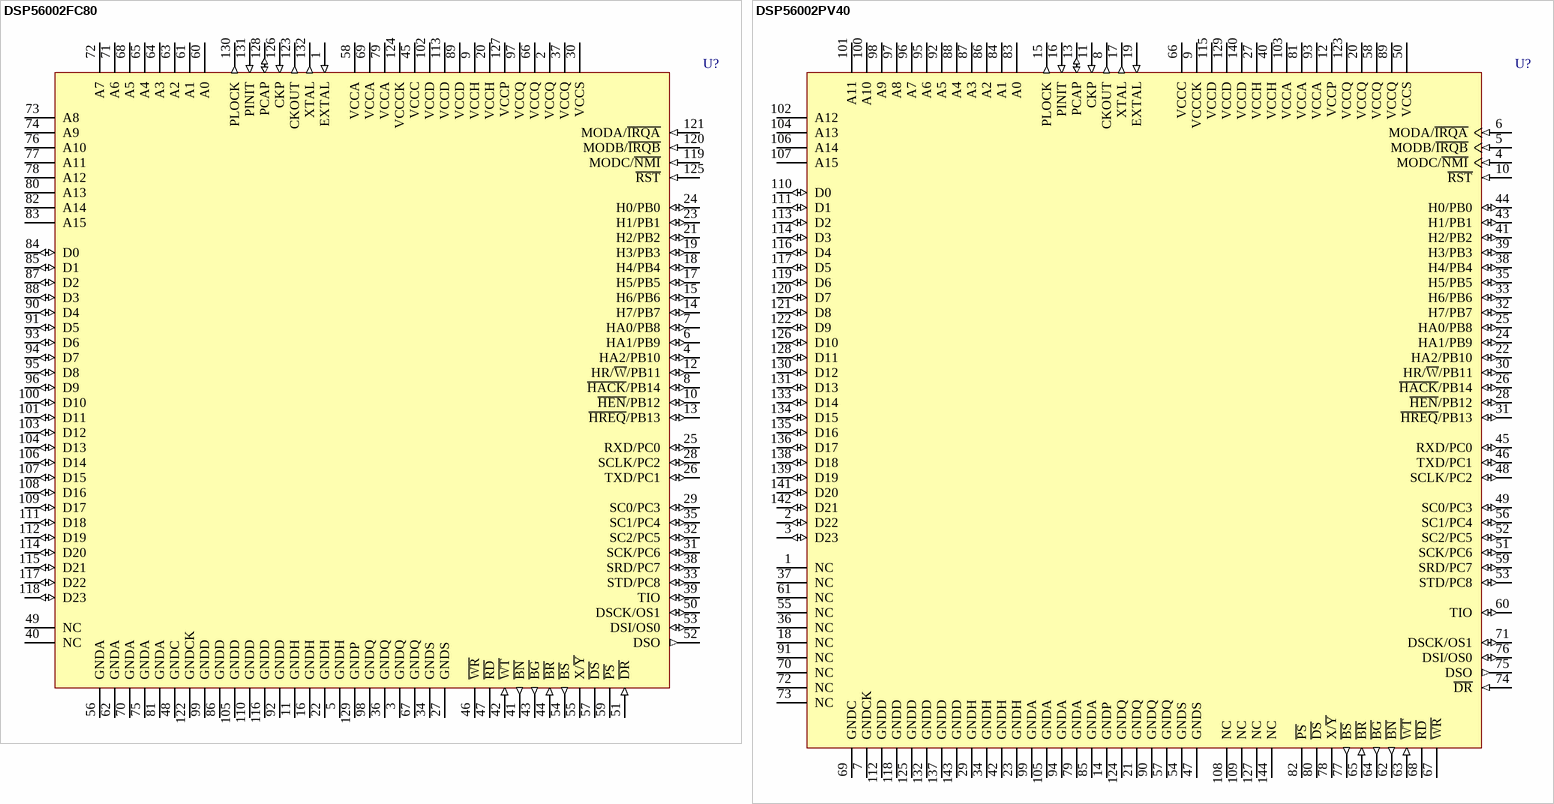
[diagram p3: symbols DSP56002FC80 to DSP56002PV40]

## DSP56002FC80
designator U?
24-Bit Digital Signal Processor; Note: Do not connect to 'No Connect' Pins.; Published: 21-Mar-2003; DatasheetVersion: Rev. 3, 1996; PackageVersion: 1997; PackageReference: 831A-01; Publisher: Altium Limited; PackageDescription: PQFP; 132 Leads; Body 24 x 24 mm; Pitch 0.635 mm; ComponentLink1Description: Manufacturer Link; ComponentLink1URL: http://www.freescale.com/
footprint 831A-01 (PQFP; 132 Leads; Body 24 x 24 mm; Pitch 0.635 mm)
pins: 1 EXTAL (in), 2 VCCQ (power), 3 GNDQ (power), 4 HA2/PB10 (io), 5 GNDH (power), 6 HA1/PB9 (io), 7 HA0/PB8 (io), 8 ~{HACK}/PB14 (io), 9 VCCH (power), 10 ~{HEN}/PB12 (io), 11 GNDH (power), 12 HR/~{W}/PB11 (io), 13 ~{HREQ}/PB13 (io), 14 H7/PB7 (io), 15 H6/PB6 (io), 16 GNDH (power), 17 H5/PB5 (io), 18 H4/PB4 (io), 19 H3/PB3 (io), 20 VCCH (power), 21 H2/PB2 (io), 22 GNDH (power), 23 H1/PB1 (io), 24 H0/PB0 (io), 25 RXD/PC0 (io), 26 TXD/PC1 (io), 27 GNDS (power), 28 SCLK/PC2 (io), 29 SC0/PC3 (io), 30 VCCS (power), 31 SCK/PC6 (io), 32 SC2/PC5 (io), 33 STD/PC8 (io), 34 GNDS (power), 35 SC1/PC4 (io), 36 GNDQ (power), 37 VCCQ (power), 38 SRD/PC7 (io), 39 TIO (io), 40 NC, 41 ~{BN} (out), 42 ~{WT} (in), 43 ~{BG} (out), 44 ~{BR} (in), 45 VCCC (power), 46 ~{WR} (hiz), 47 ~{RD} (hiz), 48 GNDC (power), 49 NC, 50 DSCK/OS1 (io), 51 ~{DR} (in), 52 DSO (out), 53 DSI/OS0 (io), 54 ~{BS} (out), 55 X/~{Y} (hiz), 56 GNDA (power), 57 ~{DS} (hiz), 58 VCCA (power), 59 ~{PS} (hiz), 60 A0 (hiz), 61 A1 (hiz), 62 GNDA (power), 63 A2 (hiz), 64 A3 (hiz), 65 A4 (hiz), 66 VCCQ (power), 67 GNDQ (power), 68 A5 (hiz), 69 VCCA (power), 70 GNDA (power), 71 A6 (hiz), 72 A7 (hiz), 73 A8 (hiz), 74 A9 (hiz), 75 GNDA (power), 76 A10 (hiz), 77 A11 (hiz), 78 A12 (hiz), 79 VCCA (power), 80 A13 (hiz), 81 GNDA (power), 82 A14 (hiz), 83 A15 (hiz), 84 D0 (io), 85 D1 (io), 86 GNDD (power), 87 D2 (io), 88 D3 (io), 89 VCCD (power), 90 D4 (io), 91 D5 (io), 92 GNDD (power), 93 D6 (io), 94 D7 (io), 95 D8 (io), 96 D9 (io), 97 VCCQ (power), 98 GNDQ (power), 99 GNDD (power), 100 D10 (io), 101 D11 (io), 102 VCCD (power), 103 D12 (io), 104 D13 (io), 105 GNDD (power), 106 D14 (io), 107 D15 (io), 108 D16 (io), 109 D17 (io), 110 GNDD (power), 111 D18 (io), 112 D19 (io), 113 VCCD (power), 114 D20 (io), 115 D21 (io), 116 GNDD (power), 117 D22 (io), 118 D23 (io), 119 MODC/~{NMI} (in), 120 MODB/~{IRQB} (in), 121 MODA/~{IRQA} (in), 122 GNDCK (power), 123 CKOUT (out), 124 VCCCK (power), 125 ~{RST} (in), 126 CKP (in), 127 VCCP (power), 128 PCAP (io), 129 GNDP (power), 130 PLOCK (out), 131 PINIT (in), 132 XTAL (out)

## DSP56002PV40
designator U?
24-Bit Digital Signal Processor; Note: Do not connect to 'No Connect' Pins.; Published: 21-Mar-2003; LatestRevisionDate: 13-Apr-2006; LatestRevisionNote: IPC-7351 Footprint Added.; DatasheetVersion: Rev. 3, 1996; PackageVersion: revF, May-2005; PackageReference: 918-03; Publisher: Altium Limited; PackageDescription: 144-Pin Low Profile Quad Flat Pack 0.5 mm Pitch (918-03); ComponentLink1Description: Manufacturer Link; ComponentLink1URL: http://www.freescale.com/
footprint 918-03_N (Thin QFP, 144-Leads, Body 20x20mm, Pitch 0.5mm, IPC Medium Density)
footprint 918-03_L (Thin QFP, 144-Leads, Body 20x20mm, Pitch 0.5mm, IPC High Density)
footprint 918-03_M (Thin QFP, 144-Leads, Body 20x20mm, Pitch 0.5mm, IPC Low Density)
3D model DSP56002-918-03 (144-Pin Low Profile Quad Flat Pack 0.5 mm Pitch (918-03))
pins: 1 NC, 2 D22 (io), 3 D23 (io), 4 MODC/~{NMI} (in), 5 MODB/~{IRQB} (in), 6 MODA/~{IRQA} (in), 7 GNDCK (power), 8 CKOUT (out), 9 VCCCK (power), 10 ~{RST} (in), 11 CKP (in), 12 VCCP (power), 13 PCAP (io), 14 GNDP (power), 15 PLOCK (out), 16 PINIT (in), 17 XTAL (out), 18 NC, 19 EXTAL (in), 20 VCCQ (power), 21 GNDQ (power), 22 HA2/PB10 (io), 23 GNDH (power), 24 HA1/PB9 (io), 25 HA0/PB8 (io), 26 ~{HACK}/PB14 (io), 27 VCCH (power), 28 ~{HEN}/PB12 (io), 29 GNDH (power), 30 HR/~{W}/PB11 (io), 31 ~{HREQ}/PB13 (io), 32 H7/PB7 (io), 33 H6/PB6 (io), 34 GNDH (power), 35 H5/PB5 (io), 36 NC, 37 NC, 38 H4/PB4 (io), 39 H3/PB3 (io), 40 VCCH (power), 41 H2/PB2 (io), 42 GNDH (power), 43 H1/PB1 (io), 44 H0/PB0 (io), 45 RXD/PC0 (io), 46 TXD/PC1 (io), 47 GNDS (power), 48 SCLK/PC2 (io), 49 SC0/PC3 (io), 50 VCCS (power), 51 SCK/PC6 (io), 52 SC2/PC5 (io), 53 STD/PC8 (io), 54 GNDS (power), 55 NC, 56 SC1/PC4 (io), 57 GNDQ (power), 58 VCCQ (power), 59 SRD/PC7 (io), 60 TIO (io), 61 NC, 62 ~{BN} (out), 63 ~{WT} (in), 64 ~{BG} (out), 65 ~{BR} (in), 66 VCCC (power), 67 ~{WR} (hiz), 68 ~{RD} (hiz), 69 GNDC (power), 70 NC, 71 DSCK/OS1 (io), 72 NC, 73 NC, 74 ~{DR} (in), 75 DSO (out), 76 DSI/OS0 (io), 77 ~{BS} (out), 78 X/~{Y} (hiz), 79 GNDA (power), 80 ~{DS} (hiz), 81 VCCA (power), 82 ~{PS} (hiz), 83 A0 (hiz), 84 A1 (hiz), 85 GNDA (power), 86 A2 (hiz), 87 A3 (hiz), 88 A4 (hiz), 89 VCCQ (power), 90 GNDQ (power), 91 NC, 92 A5 (hiz), 93 VCCA (power), 94 GNDA (power), 95 A6 (hiz), 96 A7 (hiz), 97 A8 (hiz), 98 A9 (hiz), 99 GNDA (power), 100 A10 (hiz), 101 A11 (hiz), 102 A12 (hiz), 103 VCCA (power), 104 A13 (hiz), 105 GNDA (power), 106 A14 (hiz), 107 A15 (hiz), 108 NC, 109 NC, 110 D0 (io), 111 D1 (io), 112 GNDD (power), 113 D2 (io), 114 D3 (io), 115 VCCD (power), 116 D4 (io), 117 D5 (io), 118 GNDD (power), 119 D6 (io), 120 D7 (io), 121 D8 (io), 122 D9 (io), 123 VCCQ (power), 124 GNDQ (power), 125 GNDD (power), 126 D10 (io), 127 NC, 128 D11 (io), 129 VCCD (power), 130 D12 (io), 131 D13 (io), 132 GNDD (power), 133 D14 (io), 134 D15 (io), 135 D16 (io), 136 D17 (io), 137 GNDD (power), 138 D18 (io), 139 D19 (io), 140 VCCD (power), 141 D20 (io), 142 D21 (io), 143 GNDD (power), 144 NC

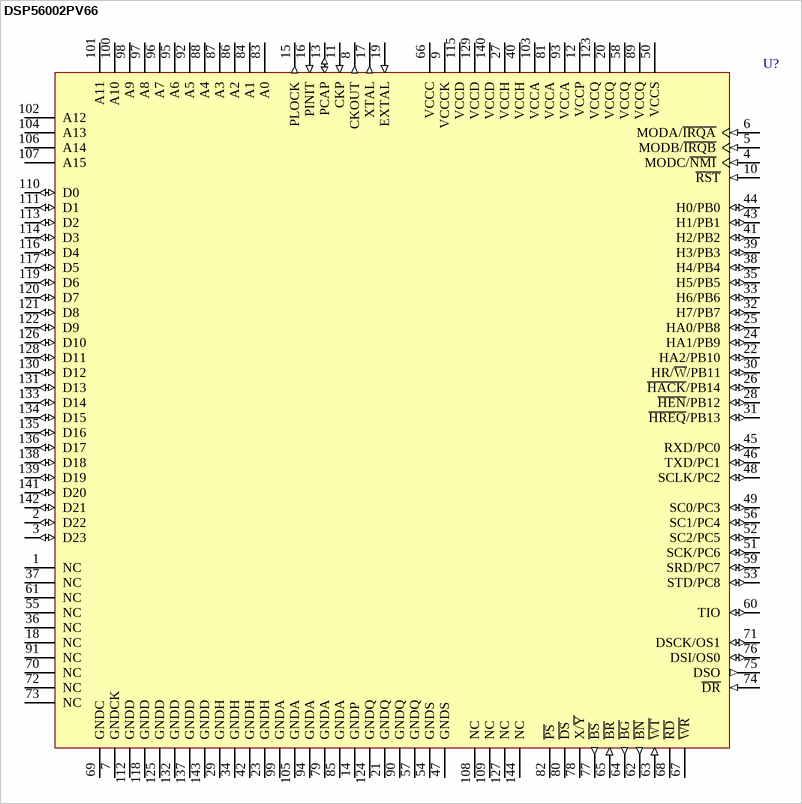
[diagram p4: symbol DSP56002PV66]

## DSP56002PV66
designator U?
24-Bit Digital Signal Processor; Note: Do not connect to 'No Connect' Pins.; Published: 21-Mar-2003; LatestRevisionDate: 13-Apr-2006; LatestRevisionNote: IPC-7351 Footprint Added.; DatasheetVersion: Rev. 3, 1996; PackageVersion: revF, May-2005; PackageReference: 918-03; Publisher: Altium Limited; PackageDescription: 144-Pin Low Profile Quad Flat Pack 0.5 mm Pitch (918-03); ComponentLink1Description: Manufacturer Link; ComponentLink1URL: http://www.freescale.com/
footprint 918-03_N (Thin QFP, 144-Leads, Body 20x20mm, Pitch 0.5mm, IPC Medium Density)
footprint 918-03_L (Thin QFP, 144-Leads, Body 20x20mm, Pitch 0.5mm, IPC High Density)
footprint 918-03_M (Thin QFP, 144-Leads, Body 20x20mm, Pitch 0.5mm, IPC Low Density)
3D model DSP56002-918-03 (144-Pin Low Profile Quad Flat Pack 0.5 mm Pitch (918-03))
pins: 1 NC, 2 D22 (io), 3 D23 (io), 4 MODC/~{NMI} (in), 5 MODB/~{IRQB} (in), 6 MODA/~{IRQA} (in), 7 GNDCK (power), 8 CKOUT (out), 9 VCCCK (power), 10 ~{RST} (in), 11 CKP (in), 12 VCCP (power), 13 PCAP (io), 14 GNDP (power), 15 PLOCK (out), 16 PINIT (in), 17 XTAL (out), 18 NC, 19 EXTAL (in), 20 VCCQ (power), 21 GNDQ (power), 22 HA2/PB10 (io), 23 GNDH (power), 24 HA1/PB9 (io), 25 HA0/PB8 (io), 26 ~{HACK}/PB14 (io), 27 VCCH (power), 28 ~{HEN}/PB12 (io), 29 GNDH (power), 30 HR/~{W}/PB11 (io), 31 ~{HREQ}/PB13 (io), 32 H7/PB7 (io), 33 H6/PB6 (io), 34 GNDH (power), 35 H5/PB5 (io), 36 NC, 37 NC, 38 H4/PB4 (io), 39 H3/PB3 (io), 40 VCCH (power), 41 H2/PB2 (io), 42 GNDH (power), 43 H1/PB1 (io), 44 H0/PB0 (io), 45 RXD/PC0 (io), 46 TXD/PC1 (io), 47 GNDS (power), 48 SCLK/PC2 (io), 49 SC0/PC3 (io), 50 VCCS (power), 51 SCK/PC6 (io), 52 SC2/PC5 (io), 53 STD/PC8 (io), 54 GNDS (power), 55 NC, 56 SC1/PC4 (io), 57 GNDQ (power), 58 VCCQ (power), 59 SRD/PC7 (io), 60 TIO (io), 61 NC, 62 ~{BN} (out), 63 ~{WT} (in), 64 ~{BG} (out), 65 ~{BR} (in), 66 VCCC (power), 67 ~{WR} (hiz), 68 ~{RD} (hiz), 69 GNDC (power), 70 NC, 71 DSCK/OS1 (io), 72 NC, 73 NC, 74 ~{DR} (in), 75 DSO (out), 76 DSI/OS0 (io), 77 ~{BS} (out), 78 X/~{Y} (hiz), 79 GNDA (power), 80 ~{DS} (hiz), 81 VCCA (power), 82 ~{PS} (hiz), 83 A0 (hiz), 84 A1 (hiz), 85 GNDA (power), 86 A2 (hiz), 87 A3 (hiz), 88 A4 (hiz), 89 VCCQ (power), 90 GNDQ (power), 91 NC, 92 A5 (hiz), 93 VCCA (power), 94 GNDA (power), 95 A6 (hiz), 96 A7 (hiz), 97 A8 (hiz), 98 A9 (hiz), 99 GNDA (power), 100 A10 (hiz), 101 A11 (hiz), 102 A12 (hiz), 103 VCCA (power), 104 A13 (hiz), 105 GNDA (power), 106 A14 (hiz), 107 A15 (hiz), 108 NC, 109 NC, 110 D0 (io), 111 D1 (io), 112 GNDD (power), 113 D2 (io), 114 D3 (io), 115 VCCD (power), 116 D4 (io), 117 D5 (io), 118 GNDD (power), 119 D6 (io), 120 D7 (io), 121 D8 (io), 122 D9 (io), 123 VCCQ (power), 124 GNDQ (power), 125 GNDD (power), 126 D10 (io), 127 NC, 128 D11 (io), 129 VCCD (power), 130 D12 (io), 131 D13 (io), 132 GNDD (power), 133 D14 (io), 134 D15 (io), 135 D16 (io), 136 D17 (io), 137 GNDD (power), 138 D18 (io), 139 D19 (io), 140 VCCD (power), 141 D20 (io), 142 D21 (io), 143 GNDD (power), 144 NC

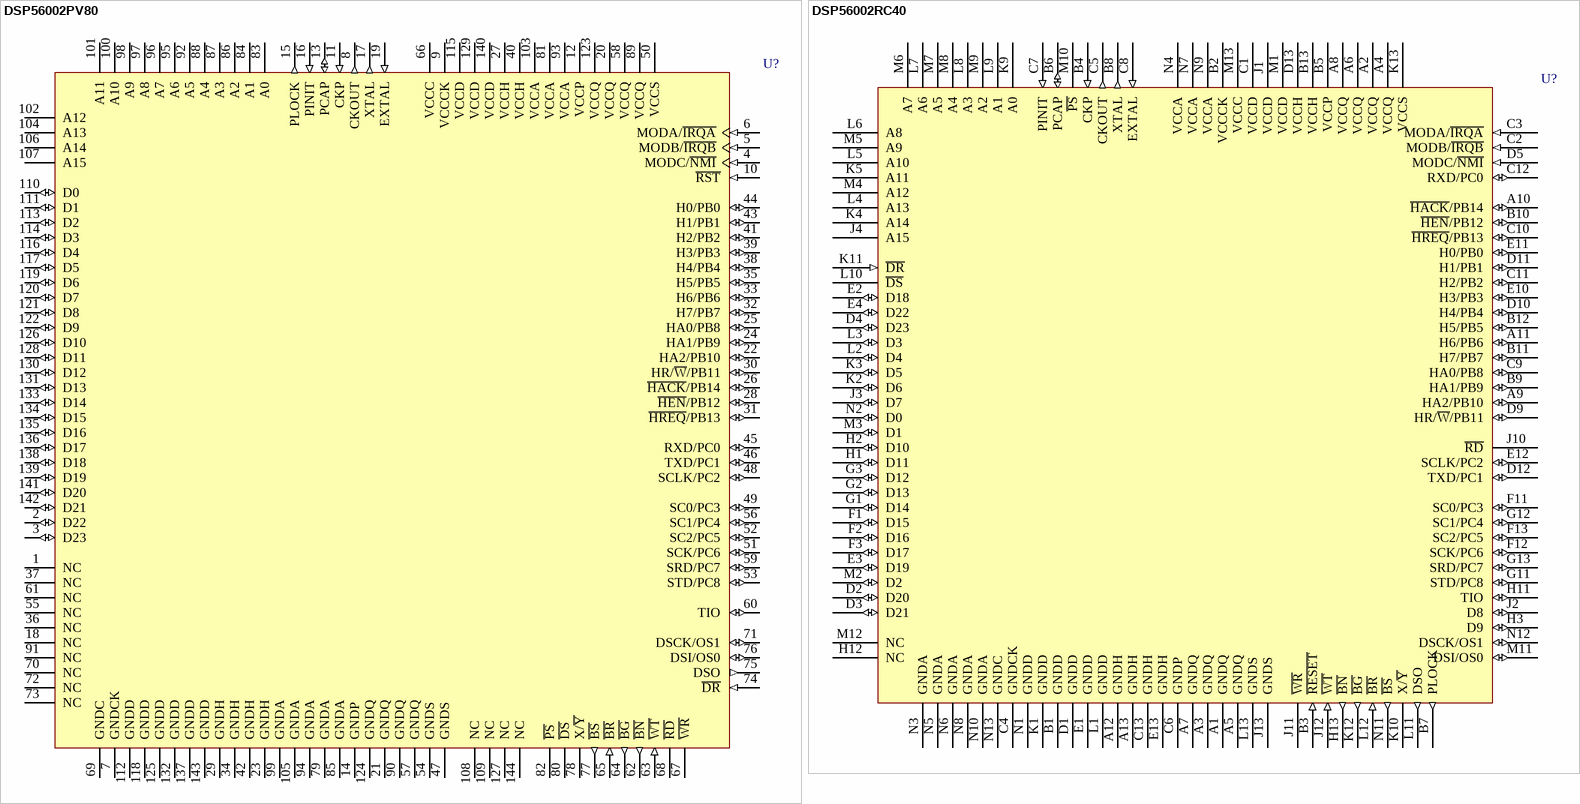
[diagram p5: symbols DSP56002PV80 to DSP56002RC40]

## DSP56002PV80
designator U?
24-Bit Digital Signal Processor; Note: Do not connect to 'No Connect' Pins.; Published: 21-Mar-2003; LatestRevisionDate: 13-Apr-2006; LatestRevisionNote: IPC-7351 Footprint Added.; DatasheetVersion: Rev. 3, 1996; PackageVersion: revF, May-2005; PackageReference: 918-03; Publisher: Altium Limited; PackageDescription: 144-Pin Low Profile Quad Flat Pack 0.5 mm Pitch (918-03); ComponentLink1Description: Manufacturer Link; ComponentLink1URL: http://www.freescale.com/
footprint 918-03_N (Thin QFP, 144-Leads, Body 20x20mm, Pitch 0.5mm, IPC Medium Density)
footprint 918-03_L (Thin QFP, 144-Leads, Body 20x20mm, Pitch 0.5mm, IPC High Density)
footprint 918-03_M (Thin QFP, 144-Leads, Body 20x20mm, Pitch 0.5mm, IPC Low Density)
3D model DSP56002-918-03 (144-Pin Low Profile Quad Flat Pack 0.5 mm Pitch (918-03))
pins: 1 NC, 2 D22 (io), 3 D23 (io), 4 MODC/~{NMI} (in), 5 MODB/~{IRQB} (in), 6 MODA/~{IRQA} (in), 7 GNDCK (power), 8 CKOUT (out), 9 VCCCK (power), 10 ~{RST} (in), 11 CKP (in), 12 VCCP (power), 13 PCAP (io), 14 GNDP (power), 15 PLOCK (out), 16 PINIT (in), 17 XTAL (out), 18 NC, 19 EXTAL (in), 20 VCCQ (power), 21 GNDQ (power), 22 HA2/PB10 (io), 23 GNDH (power), 24 HA1/PB9 (io), 25 HA0/PB8 (io), 26 ~{HACK}/PB14 (io), 27 VCCH (power), 28 ~{HEN}/PB12 (io), 29 GNDH (power), 30 HR/~{W}/PB11 (io), 31 ~{HREQ}/PB13 (io), 32 H7/PB7 (io), 33 H6/PB6 (io), 34 GNDH (power), 35 H5/PB5 (io), 36 NC, 37 NC, 38 H4/PB4 (io), 39 H3/PB3 (io), 40 VCCH (power), 41 H2/PB2 (io), 42 GNDH (power), 43 H1/PB1 (io), 44 H0/PB0 (io), 45 RXD/PC0 (io), 46 TXD/PC1 (io), 47 GNDS (power), 48 SCLK/PC2 (io), 49 SC0/PC3 (io), 50 VCCS (power), 51 SCK/PC6 (io), 52 SC2/PC5 (io), 53 STD/PC8 (io), 54 GNDS (power), 55 NC, 56 SC1/PC4 (io), 57 GNDQ (power), 58 VCCQ (power), 59 SRD/PC7 (io), 60 TIO (io), 61 NC, 62 ~{BN} (out), 63 ~{WT} (in), 64 ~{BG} (out), 65 ~{BR} (in), 66 VCCC (power), 67 ~{WR} (hiz), 68 ~{RD} (hiz), 69 GNDC (power), 70 NC, 71 DSCK/OS1 (io), 72 NC, 73 NC, 74 ~{DR} (in), 75 DSO (out), 76 DSI/OS0 (io), 77 ~{BS} (out), 78 X/~{Y} (hiz), 79 GNDA (power), 80 ~{DS} (hiz), 81 VCCA (power), 82 ~{PS} (hiz), 83 A0 (hiz), 84 A1 (hiz), 85 GNDA (power), 86 A2 (hiz), 87 A3 (hiz), 88 A4 (hiz), 89 VCCQ (power), 90 GNDQ (power), 91 NC, 92 A5 (hiz), 93 VCCA (power), 94 GNDA (power), 95 A6 (hiz), 96 A7 (hiz), 97 A8 (hiz), 98 A9 (hiz), 99 GNDA (power), 100 A10 (hiz), 101 A11 (hiz), 102 A12 (hiz), 103 VCCA (power), 104 A13 (hiz), 105 GNDA (power), 106 A14 (hiz), 107 A15 (hiz), 108 NC, 109 NC, 110 D0 (io), 111 D1 (io), 112 GNDD (power), 113 D2 (io), 114 D3 (io), 115 VCCD (power), 116 D4 (io), 117 D5 (io), 118 GNDD (power), 119 D6 (io), 120 D7 (io), 121 D8 (io), 122 D9 (io), 123 VCCQ (power), 124 GNDQ (power), 125 GNDD (power), 126 D10 (io), 127 NC, 128 D11 (io), 129 VCCD (power), 130 D12 (io), 131 D13 (io), 132 GNDD (power), 133 D14 (io), 134 D15 (io), 135 D16 (io), 136 D17 (io), 137 GNDD (power), 138 D18 (io), 139 D19 (io), 140 VCCD (power), 141 D20 (io), 142 D21 (io), 143 GNDD (power), 144 NC

## DSP56002RC40
designator U?
24-Bit Digital Signal Processor; Note: Do not connect to 'No Connect' Pins.; Published: 21-Mar-2003; LatestRevisionDate: 06-Jun-2005; LatestRevisionNote: Stylized 3D Model Added.; DatasheetVersion: Rev. 3, 1996; PackageVersion: 1995; PackageReference: 789B-01; Publisher: Altium Limited; PackageDescription: 132-Pin Ceramic Pin Grid Array 2.54 mm Pitch; ComponentLink1Description: Manufacturer Link; ComponentLink1URL: http://www.freescale.com/
footprint 789B-01 (PGA, 132-Leads, Body 34.5x34.5mm, Pitch 2.54mm)
3D model DSP56002-789B-01 (132-Pin Ceramic Pin Grid Array 2.54 mm Pitch)
pins: A1 GNDQ (power), A2 VCCQ (power), A3 GNDQ (power), A4 VCCQ (power), A5 GNDQ (power), A6 VCCQ (power), A7 GNDQ (power), A8 VCCQ (power), A9 HA2/PB10 (io), A10 ~{HACK}/PB14 (io), A11 H6/PB6 (io), A12 GNDH (power), A13 GNDH (power), B1 GNDD (power), B2 VCCCK (power), B3 ~{RESET} (in), B4 CKP (in), B5 VCCP (power), B6 PCAP (io), B7 PLOCK (out), B8 XTAL (out), B9 HA1/PB9 (io), B10 ~{HEN}/PB12 (io), B11 H7/PB7 (io), B12 H5/PB5 (io), B13 VCCH (power), C1 VCCD (power), C2 MODB/~{IRQB} (in), C3 MODA/~{IRQA} (in), C4 GNDCK (power), C5 CKOUT (out), C6 GNDP (power), C7 PINIT (in), C8 EXTAL (in), C9 HA0/PB8 (io), C10 ~{HREQ}/PB13 (io), C11 H2/PB2 (io), C12 RXD/PC0 (io), C13 GNDH (power), D1 GNDD (power), D2 D20 (io), D3 D21 (io), D4 D23 (io), D5 MODC/~{NMI} (in), D9 HR/~{W}/PB11 (io), D10 H4/PB4 (io), D11 H1/PB1 (io), D12 TXD/PC1 (io), D13 VCCH (power), E1 GNDD (power), E2 D18 (io), E3 D19 (io), E4 D22 (io), E10 H3/PB3 (io), E11 H0/PB0 (io), E12 SCLK/PC2 (io), E13 GNDH (power), F1 D15 (io), F2 D16 (io), F3 D17 (io), F11 SC0/PC3 (io), F12 SCK/PC6 (io), F13 SC2/PC5 (io), G1 D14 (io), G2 D13 (io), G3 D12 (io), G11 STD/PC8 (io), G12 SC1/PC4 (io), G13 SRD/PC7 (io), H1 D11 (io), H2 D10 (io), H3 D9 (io), H11 TIO (io), H12 NC, H13 ~{BN} (out), J1 VCCD (power), J2 D8 (io), J3 D7 (io), J4 A15 (hiz), J10 ~{RD} (hiz), J11 ~{WR} (hiz), J12 ~{WT} (in), J13 GNDS (power), K1 GNDD (power), K2 D6 (io), K3 D5 (io), K4 A14 (hiz), K5 A11 (hiz), K9 A0 (hiz), K10 X/~{Y} (hiz), K11 ~{DR} (in), K12 ~{BG} (out), K13 VCCS (power), L1 GNDD (power), L2 D4 (io), L3 D3 (io), L4 A13 (hiz), L5 A10 (hiz), L6 A8 (hiz), L7 A6 (hiz), L8 A3 (hiz), L9 A1 (hiz), L10 ~{DS} (hiz), L11 DSO (out), L12 ~{BR} (in), L13 GNDS (power), M1 VCCD (power), M2 D2 (io), M3 D1 (io), M4 A12 (hiz), M5 A9 (hiz), M6 A7 (hiz), M7 A5 (hiz), M8 A4 (hiz), M9 A2 (hiz), M10 ~{PS} (hiz), M11 DSI/OS0 (io), M12 NC, M13 VCCC (power), N1 GNDD (power), N2 D0 (io), N3 GNDA (power), N4 VCCA (power), N5 GNDA (power), N6 GNDA (power), N7 VCCA (power), N8 GNDA (power), N9 VCCA (power), N10 GNDA (power), N11 ~{BS} (out), N12 DSCK/OS1 (io), N13 GNDC (power)

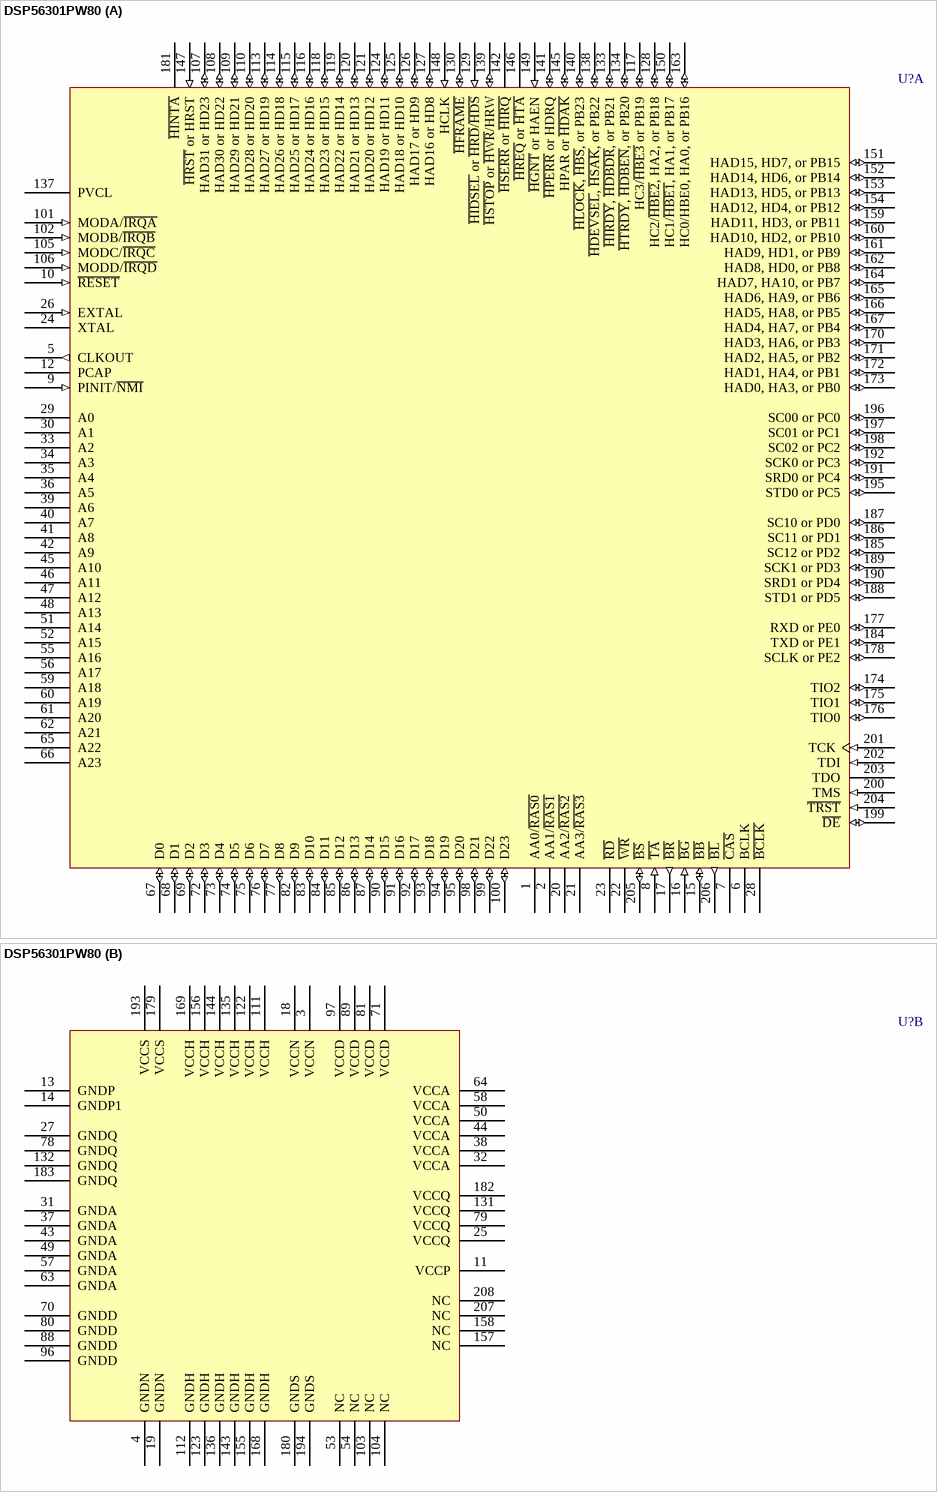
[diagram p6: symbol DSP56301PW80]

## DSP56301PW80
designator U?
DSP56300 Family High Performance 24-Bit Fixed Point DSP; Published: 21-Mar-2003; LatestRevisionDate: 13-Apr-2006; LatestRevisionNote: IPC-7351 Footprint Added.; DatasheetVersion: Rev. 5, Jan-2002; PackageVersion: rev5, Jan-2002; PackageReference: 998-01; Publisher: Altium Limited; PackageDescription: 208-Pin Thin Quad Flat Pack 0.5 mm Pitch; Code_JEDEC: MS-026-BJB; ComponentLink1Description: Manufacturer Link; ComponentLink1URL: http://www.freescale.com/; ComponentLink2Description: Datasheet; ComponentLink2URL: http://www.freescale.com/files/dsp/doc/data_sheet/DSP56301DS.pdf
footprint 998-01_N (Thin QFP, 208-Leads, Body 28x28mm, Pitch 0.5mm, IPC Medium Density)
footprint 998-01_L (Thin QFP, 208-Leads, Body 28x28mm, Pitch 0.5mm, IPC High Density)
footprint 998-01_M (Thin QFP, 208-Leads, Body 28x28mm, Pitch 0.5mm, IPC Low Density)
3D model DSP56301-998-01 (208-Pin Thin Quad Flat Pack 0.5 mm Pitch)
part A pins: 1 AA0/~{RAS0} (hiz), 2 AA1/~{RAS1} (hiz), 5 CLKOUT (out), 6 BCLK (hiz), 7 ~{CAS} (hiz), 8 ~{TA} (in), 9 PINIT/~{NMI} (in), 10 ~{RESET} (in), 12 PCAP, 15 ~{BB} (io), 16 ~{BG} (in), 17 ~{BR} (out), 20 AA2/~{RAS2} (hiz), 21 AA3/~{RAS3} (hiz), 22 ~{WR} (hiz), 23 ~{RD} (hiz), 24 XTAL, 26 EXTAL (in), 28 ~{BCLK} (hiz), 29 A0 (hiz), 30 A1 (hiz), 33 A2 (hiz), 34 A3 (hiz), 35 A4 (hiz), 36 A5 (hiz), 39 A6 (hiz), 40 A7 (hiz), 41 A8 (hiz), 42 A9 (hiz), 45 A10 (hiz), 46 A11 (hiz), 47 A12 (hiz), 48 A13 (hiz), 51 A14 (hiz), 52 A15 (hiz), 55 A16 (hiz), 56 A17 (hiz), 59 A18 (hiz), 60 A19 (hiz), 61 A20 (hiz), 62 A21 (hiz), 65 A22 (hiz), 66 A23 (hiz), 67 D0 (io), 68 D1 (io), 69 D2 (io), 72 D3 (io), 73 D4 (io), 74 D5 (io), 75 D6 (io), 76 D7 (io), 77 D8 (io), 82 D9 (io), 83 D10 (io), 84 D11 (io), 85 D12 (io), 86 D13 (io), 87 D14 (io), 90 D15 (io), 91 D16 (io), 92 D17 (io), 93 D18 (io), 94 D19 (io), 95 D20 (io), 98 D21 (io), 99 D22 (io), 100 D23 (io), 101 MODA/~{IRQA} (in), 102 MODB/~{IRQB} (in), 105 MODC/~{IRQC} (in), 106 MODD/~{IRQD} (in), 107 HAD31 or HD23 (io), 108 HAD30 or HD22 (io), 109 HAD29 or HD21 (io), 110 HAD28 or HD20 (io), 113 HAD27 or HD19 (io), 114 HAD26 or HD18 (io), 115 HAD25 or HD17 (io), 116 HAD24 or HD16 (io), 117 HC3/~{HBE3} or PB19 (io), 118 HAD23 or HD15 (io), 119 HAD22 or HD14 (io), 120 HAD21 or HD13 (io), 121 HAD20 or HD12 (io), 124 HAD19 or HD11 (io), 125 HAD18 or HD10 (io), 126 HAD17 or HD9 (io), 127 HAD16 or HD8 (io), 128 HC2/~{HBE2}, HA2, or PB18 (io), 129 ~{HIDSEL} or ~{HRD}/~{HDS} (in), 130 ~{HFRAME} (io), 133 ~{HIRDY}, ~{HDBDR}, or PB21 (io), 134 ~{HTRDY}, ~{HDBEN}, or PB20 (io), 137 PVCL, 138 ~{HDEVSEL}, ~{HSAK}, or PB22 (io), 139 ~{HSTOP} or ~{HWR}/HRW (io), 140 ~{HLOCK}, ~{HBS}, or PB23 (io), 141 ~{HPERR} or HDRQ (io), 142 ~{HSERR} or ~{HIRQ} (hiz), 145 HPAR or ~{HDAK} (io), 146 ~{HREQ} or ~{HTA} (hiz), 147 ~{HRST} or HRST (in), 148 HCLK (in), 149 ~{HGNT} or HAEN (in), 150 HC1/~{HBE1}, HA1, or PB17 (io), 151 HAD15, HD7, or PB15 (io), 152 HAD14, HD6, or PB14 (io), 153 HAD13, HD5, or PB13 (io), 154 HAD12, HD4, or PB12 (io), 159 HAD11, HD3, or PB11 (io), 160 HAD10, HD2, or PB10 (io), 161 HAD9, HD1, or PB9 (io), 162 HAD8, HD0, or PB8 (io), 163 HC0/HBE0, HA0, or PB16 (io), 164 HAD7, HA10, or PB7 (io), 165 HAD6, HA9, or PB6 (io), 166 HAD5, HA8, or PB5 (io), 167 HAD4, HA7, or PB4 (io), 170 HAD3, HA6, or PB3 (io), 171 HAD2, HA5, or PB2 (io), 172 HAD1, HA4, or PB1 (io), 173 HAD0, HA3, or PB0 (io), 174 TIO2 (io), 175 TIO1 (io), 176 TIO0 (io), 177 RXD or PE0 (io), 178 SCLK or PE2 (io), 181 ~{HINTA} (hiz), 184 TXD or PE1 (io), 185 SC12 or PD2 (io), 186 SC11 or PD1 (io), 187 SC10 or PD0 (io), 188 STD1 or PD5 (io), 189 SCK1 or PD3 (io), 190 SRD1 or PD4 (io), 191 SRD0 or PC4 (io), 192 SCK0 or PC3 (io), 195 STD0 or PC5 (io), 196 SC00 or PC0 (io), 197 SC01 or PC1 (io), 198 SC02 or PC2 (io), 199 ~{DE} (io), 200 TMS (in), 201 TCK (in), 202 TDI (in), 203 TDO (hiz), 204 ~{TRST} (in), 205 ~{BS} (io), 206 ~{BL} (out)
part B pins: 3 VCCN (power), 4 GNDN (power), 11 VCCP (power), 13 GNDP (power), 14 GNDP1 (power), 18 VCCN (power), 19 GNDN (power), 25 VCCQ (power), 27 GNDQ (power), 31 GNDA (power), 32 VCCA (power), 37 GNDA (power), 38 VCCA (power), 43 GNDA (power), 44 VCCA (power), 49 GNDA (power), 50 VCCA (power), 53 NC, 54 NC, 57 GNDA (power), 58 VCCA (power), 63 GNDA (power), 64 VCCA (power), 70 GNDD (power), 71 VCCD (power), 78 GNDQ (power), 79 VCCQ (power), 80 GNDD (power), 81 VCCD (power), 88 GNDD (power), 89 VCCD (power), 96 GNDD (power), 97 VCCD (power), 103 NC, 104 NC, 111 VCCH (power), 112 GNDH (power), 122 VCCH (power), 123 GNDH (power), 131 VCCQ (power), 132 GNDQ (power), 135 VCCH (power), 136 GNDH (power), 143 GNDH (power), 144 VCCH (power), 155 GNDH (power), 156 VCCH (power), 157 NC, 158 NC, 168 GNDH (power), 169 VCCH (power), 179 VCCS (power), 180 GNDS (power), 182 VCCQ (power), 183 GNDQ (power), 193 VCCS (power), 194 GNDS (power), 207 NC, 208 NC

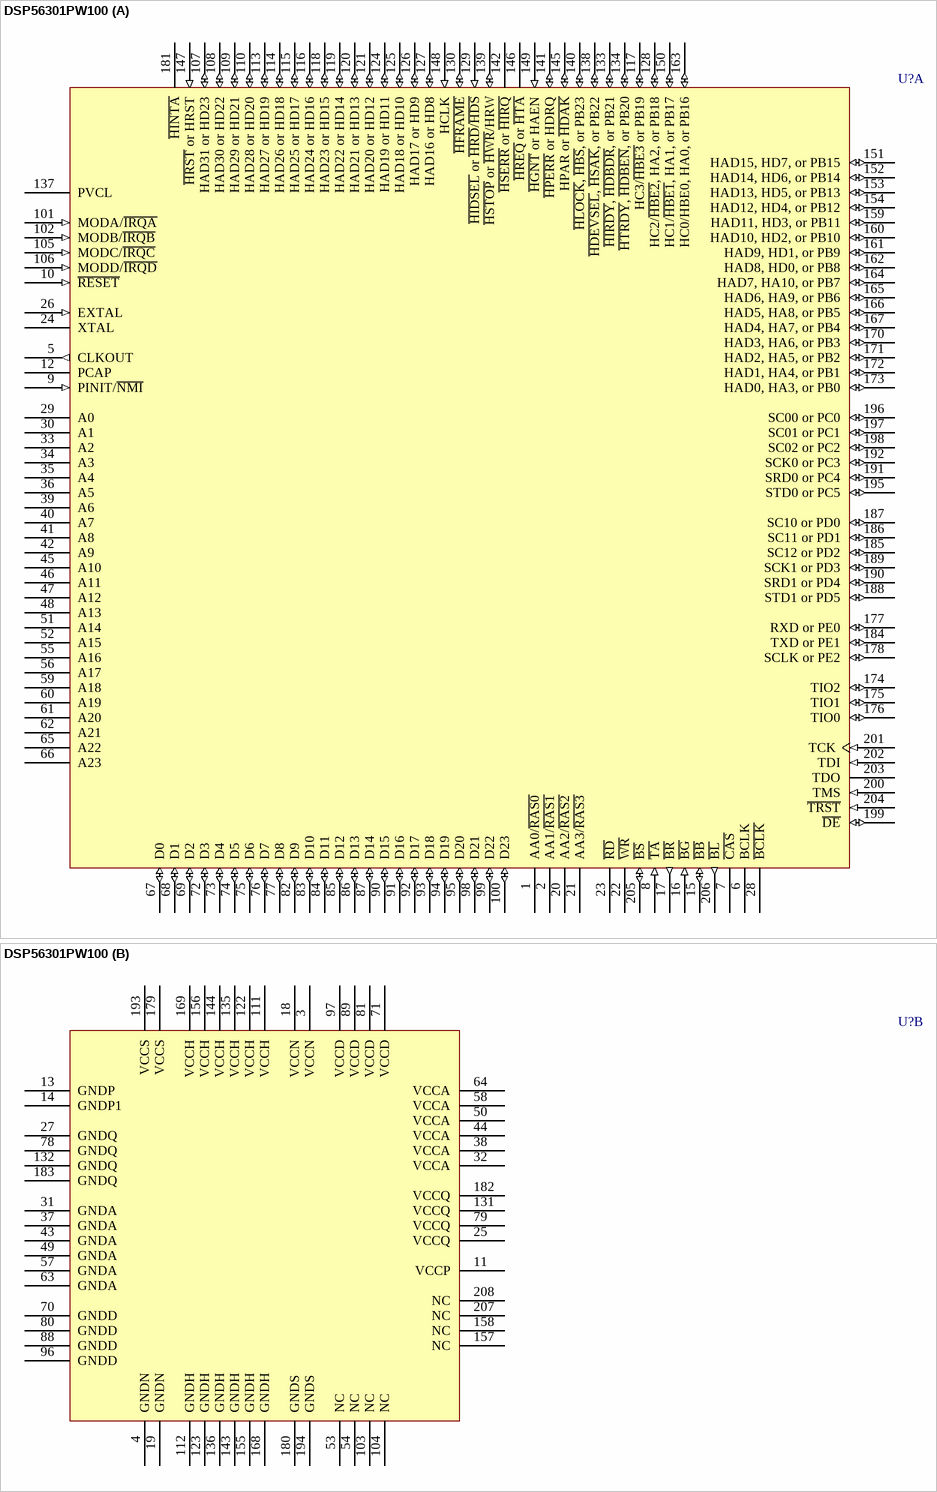
[diagram p7: symbol DSP56301PW100]

## DSP56301PW100
designator U?
DSP56300 Family High Performance 24-Bit Fixed Point DSP; Published: 21-Mar-2003; LatestRevisionDate: 13-Apr-2006; LatestRevisionNote: IPC-7351 Footprint Added.; DatasheetVersion: Rev. 5, Jan-2002; PackageVersion: rev5, Jan-2002; PackageReference: 998-01; Publisher: Altium Limited; PackageDescription: 208-Pin Thin Quad Flat Pack 0.5 mm Pitch; Code_JEDEC: MS-026-BJB; ComponentLink1Description: Manufacturer Link; ComponentLink1URL: http://www.freescale.com/; ComponentLink2Description: Datasheet; ComponentLink2URL: http://www.freescale.com/files/dsp/doc/data_sheet/DSP56301DS.pdf
footprint 998-01_N (Thin QFP, 208-Leads, Body 28x28mm, Pitch 0.5mm, IPC Medium Density)
footprint 998-01_L (Thin QFP, 208-Leads, Body 28x28mm, Pitch 0.5mm, IPC High Density)
footprint 998-01_M (Thin QFP, 208-Leads, Body 28x28mm, Pitch 0.5mm, IPC Low Density)
3D model DSP56301-998-01 (208-Pin Thin Quad Flat Pack 0.5 mm Pitch)
part A pins: 1 AA0/~{RAS0} (hiz), 2 AA1/~{RAS1} (hiz), 5 CLKOUT (out), 6 BCLK (hiz), 7 ~{CAS} (hiz), 8 ~{TA} (in), 9 PINIT/~{NMI} (in), 10 ~{RESET} (in), 12 PCAP, 15 ~{BB} (io), 16 ~{BG} (in), 17 ~{BR} (out), 20 AA2/~{RAS2} (hiz), 21 AA3/~{RAS3} (hiz), 22 ~{WR} (hiz), 23 ~{RD} (hiz), 24 XTAL, 26 EXTAL (in), 28 ~{BCLK} (hiz), 29 A0 (hiz), 30 A1 (hiz), 33 A2 (hiz), 34 A3 (hiz), 35 A4 (hiz), 36 A5 (hiz), 39 A6 (hiz), 40 A7 (hiz), 41 A8 (hiz), 42 A9 (hiz), 45 A10 (hiz), 46 A11 (hiz), 47 A12 (hiz), 48 A13 (hiz), 51 A14 (hiz), 52 A15 (hiz), 55 A16 (hiz), 56 A17 (hiz), 59 A18 (hiz), 60 A19 (hiz), 61 A20 (hiz), 62 A21 (hiz), 65 A22 (hiz), 66 A23 (hiz), 67 D0 (io), 68 D1 (io), 69 D2 (io), 72 D3 (io), 73 D4 (io), 74 D5 (io), 75 D6 (io), 76 D7 (io), 77 D8 (io), 82 D9 (io), 83 D10 (io), 84 D11 (io), 85 D12 (io), 86 D13 (io), 87 D14 (io), 90 D15 (io), 91 D16 (io), 92 D17 (io), 93 D18 (io), 94 D19 (io), 95 D20 (io), 98 D21 (io), 99 D22 (io), 100 D23 (io), 101 MODA/~{IRQA} (in), 102 MODB/~{IRQB} (in), 105 MODC/~{IRQC} (in), 106 MODD/~{IRQD} (in), 107 HAD31 or HD23 (io), 108 HAD30 or HD22 (io), 109 HAD29 or HD21 (io), 110 HAD28 or HD20 (io), 113 HAD27 or HD19 (io), 114 HAD26 or HD18 (io), 115 HAD25 or HD17 (io), 116 HAD24 or HD16 (io), 117 HC3/~{HBE3} or PB19 (io), 118 HAD23 or HD15 (io), 119 HAD22 or HD14 (io), 120 HAD21 or HD13 (io), 121 HAD20 or HD12 (io), 124 HAD19 or HD11 (io), 125 HAD18 or HD10 (io), 126 HAD17 or HD9 (io), 127 HAD16 or HD8 (io), 128 HC2/~{HBE2}, HA2, or PB18 (io), 129 ~{HIDSEL} or ~{HRD}/~{HDS} (in), 130 ~{HFRAME} (io), 133 ~{HIRDY}, ~{HDBDR}, or PB21 (io), 134 ~{HTRDY}, ~{HDBEN}, or PB20 (io), 137 PVCL, 138 ~{HDEVSEL}, ~{HSAK}, or PB22 (io), 139 ~{HSTOP} or ~{HWR}/HRW (io), 140 ~{HLOCK}, ~{HBS}, or PB23 (io), 141 ~{HPERR} or HDRQ (io), 142 ~{HSERR} or ~{HIRQ} (hiz), 145 HPAR or ~{HDAK} (io), 146 ~{HREQ} or ~{HTA} (hiz), 147 ~{HRST} or HRST (in), 148 HCLK (in), 149 ~{HGNT} or HAEN (in), 150 HC1/~{HBE1}, HA1, or PB17 (io), 151 HAD15, HD7, or PB15 (io), 152 HAD14, HD6, or PB14 (io), 153 HAD13, HD5, or PB13 (io), 154 HAD12, HD4, or PB12 (io), 159 HAD11, HD3, or PB11 (io), 160 HAD10, HD2, or PB10 (io), 161 HAD9, HD1, or PB9 (io), 162 HAD8, HD0, or PB8 (io), 163 HC0/HBE0, HA0, or PB16 (io), 164 HAD7, HA10, or PB7 (io), 165 HAD6, HA9, or PB6 (io), 166 HAD5, HA8, or PB5 (io), 167 HAD4, HA7, or PB4 (io), 170 HAD3, HA6, or PB3 (io), 171 HAD2, HA5, or PB2 (io), 172 HAD1, HA4, or PB1 (io), 173 HAD0, HA3, or PB0 (io), 174 TIO2 (io), 175 TIO1 (io), 176 TIO0 (io), 177 RXD or PE0 (io), 178 SCLK or PE2 (io), 181 ~{HINTA} (hiz), 184 TXD or PE1 (io), 185 SC12 or PD2 (io), 186 SC11 or PD1 (io), 187 SC10 or PD0 (io), 188 STD1 or PD5 (io), 189 SCK1 or PD3 (io), 190 SRD1 or PD4 (io), 191 SRD0 or PC4 (io), 192 SCK0 or PC3 (io), 195 STD0 or PC5 (io), 196 SC00 or PC0 (io), 197 SC01 or PC1 (io), 198 SC02 or PC2 (io), 199 ~{DE} (io), 200 TMS (in), 201 TCK (in), 202 TDI (in), 203 TDO (hiz), 204 ~{TRST} (in), 205 ~{BS} (io), 206 ~{BL} (out)
part B pins: 3 VCCN (power), 4 GNDN (power), 11 VCCP (power), 13 GNDP (power), 14 GNDP1 (power), 18 VCCN (power), 19 GNDN (power), 25 VCCQ (power), 27 GNDQ (power), 31 GNDA (power), 32 VCCA (power), 37 GNDA (power), 38 VCCA (power), 43 GNDA (power), 44 VCCA (power), 49 GNDA (power), 50 VCCA (power), 53 NC, 54 NC, 57 GNDA (power), 58 VCCA (power), 63 GNDA (power), 64 VCCA (power), 70 GNDD (power), 71 VCCD (power), 78 GNDQ (power), 79 VCCQ (power), 80 GNDD (power), 81 VCCD (power), 88 GNDD (power), 89 VCCD (power), 96 GNDD (power), 97 VCCD (power), 103 NC, 104 NC, 111 VCCH (power), 112 GNDH (power), 122 VCCH (power), 123 GNDH (power), 131 VCCQ (power), 132 GNDQ (power), 135 VCCH (power), 136 GNDH (power), 143 GNDH (power), 144 VCCH (power), 155 GNDH (power), 156 VCCH (power), 157 NC, 158 NC, 168 GNDH (power), 169 VCCH (power), 179 VCCS (power), 180 GNDS (power), 182 VCCQ (power), 183 GNDQ (power), 193 VCCS (power), 194 GNDS (power), 207 NC, 208 NC

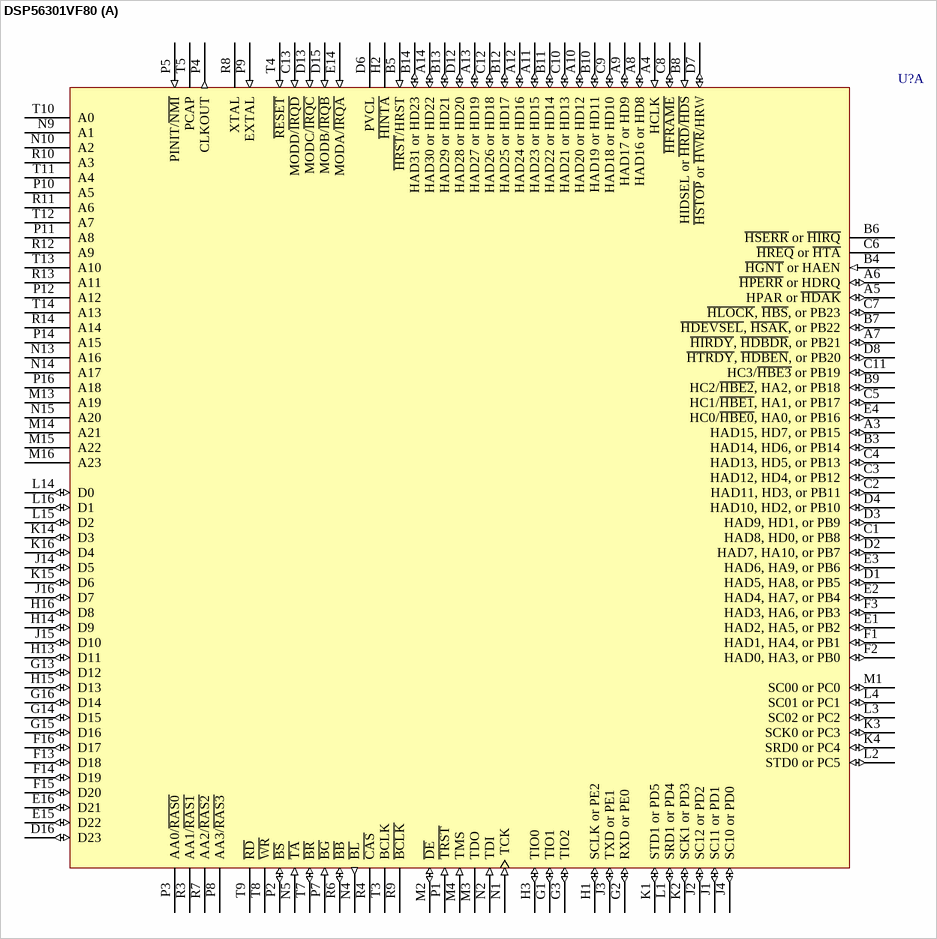
[diagram p8: symbol DSP56301VF80]

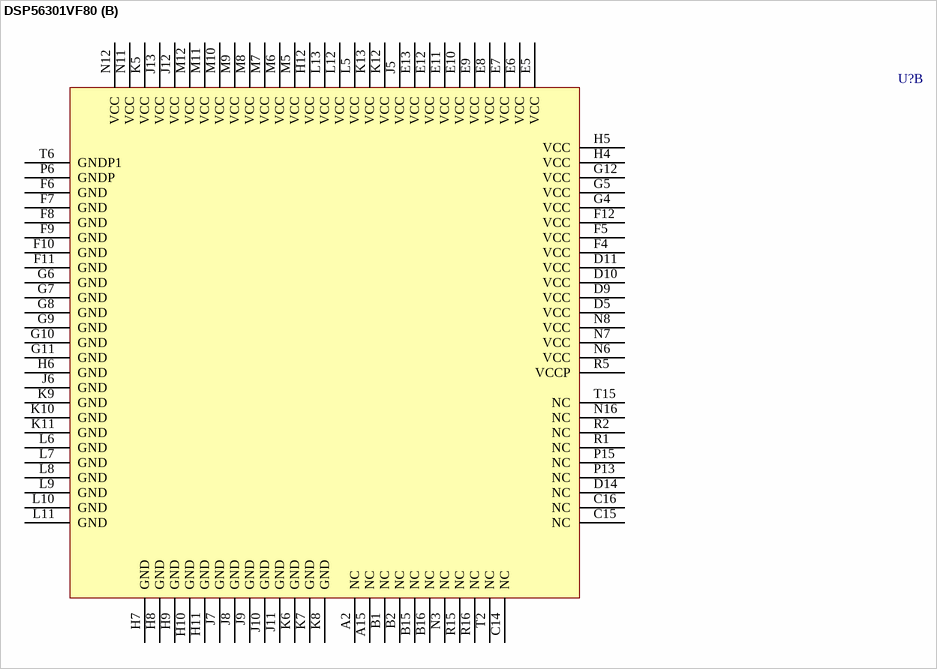
[diagram p9: symbol DSP56301VF80]